# Altium integrated library 自定义库.IntLib: 520 symbols (part 5 of 6)
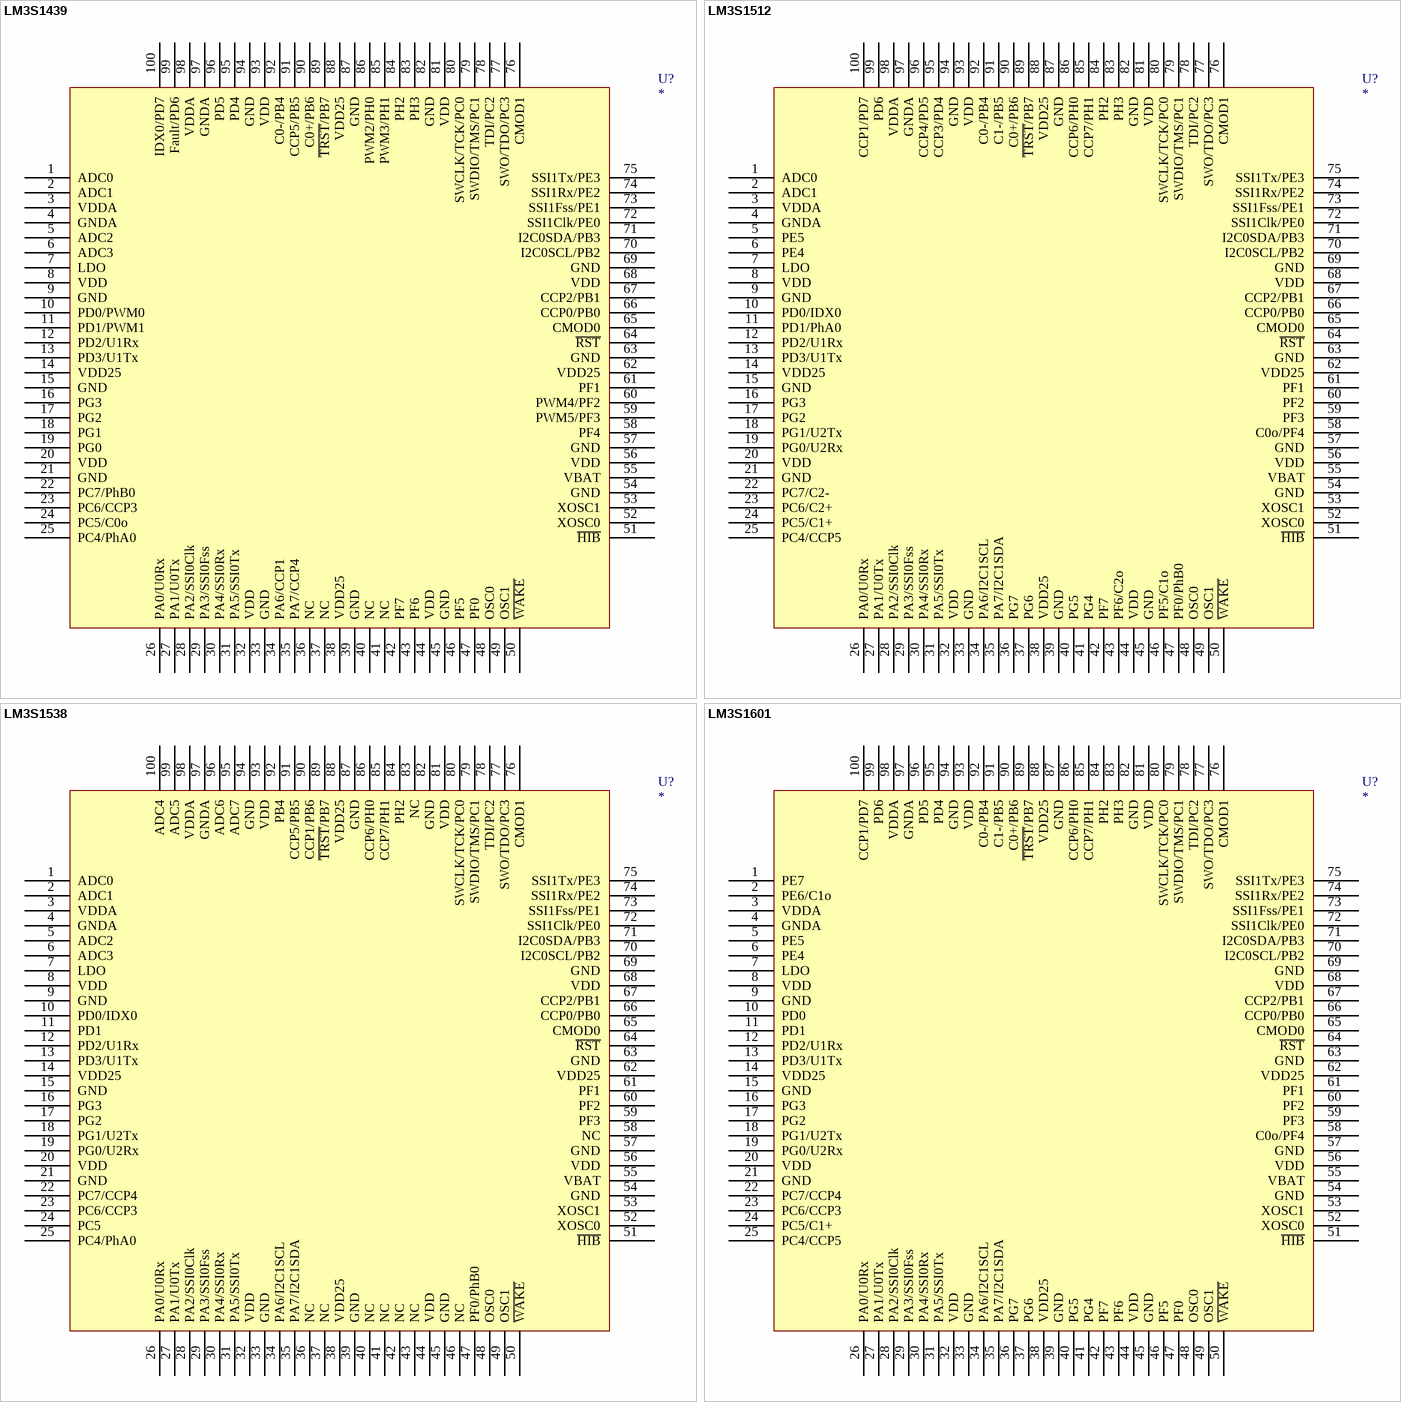
[diagram p44: symbols LM3S1439 to LM3S1601]

## LM3S1512
designator U?
footprint LQFP-100
pins: 1 ADC0, 2 ADC1, 3 VDDA, 4 GNDA, 5 PE5, 6 PE4, 7 LDO, 8 VDD, 9 GND, 10 PD0/IDX0, 11 PD1/PhA0, 12 PD2/U1Rx, 13 PD3/U1Tx, 14 VDD25, 15 GND, 16 PG3, 17 PG2, 18 PG1/U2Tx, 19 PG0/U2Rx, 20 VDD, 21 GND, 22 PC7/C2-, 23 PC6/C2+, 24 PC5/C1+, 25 PC4/CCP5, 26 PA0/U0Rx, 27 PA1/U0Tx, 28 PA2/SSI0Clk, 29 PA3/SSI0Fss, 30 PA4/SSI0Rx, 31 PA5/SSI0Tx, 32 VDD, 33 GND, 34 PA6/I2C1SCL, 35 PA7/I2C1SDA, 36 PG7, 37 PG6, 38 VDD25, 39 GND, 40 PG5, 41 PG4, 42 PF7, 43 PF6/C2o, 44 VDD, 45 GND, 46 PF5/C1o, 47 PF0/PhB0, 48 OSC0, 49 OSC1, 50 ~{WAKE}, 51 ~{HIB}, 52 XOSC0, 53 XOSC1, 54 GND, 55 VBAT, 56 VDD, 57 GND, 58 C0o/PF4, 59 PF3, 60 PF2, 61 PF1, 62 VDD25, 63 GND, 64 ~{RST}, 65 CMOD0, 66 CCP0/PB0, 67 CCP2/PB1, 68 VDD, 69 GND, 70 I2C0SCL/PB2, 71 I2C0SDA/PB3, 72 SSI1Clk/PE0, 73 SSI1Fss/PE1, 74 SSI1Rx/PE2, 75 SSI1Tx/PE3, 76 CMOD1, 77 SWO/TDO/PC3, 78 TDI/PC2, 79 SWDIO/TMS/PC1, 80 SWCLK/TCK/PC0, 81 VDD, 82 GND, 83 PH3, 84 PH2, 85 CCP7/PH1, 86 CCP6/PH0, 87 GND, 88 VDD25, 89 ~{TRST}/PB7, 90 C0+/PB6, 91 C1-/PB5, 92 C0-/PB4, 93 VDD, 94 GND, 95 CCP3/PD4, 96 CCP4/PD5, 97 GNDA, 98 VDDA, 99 PD6, 100 CCP1/PD7

## LM3S1538
designator U?
footprint LQFP-100
pins: 1 ADC0, 2 ADC1, 3 VDDA, 4 GNDA, 5 ADC2, 6 ADC3, 7 LDO, 8 VDD, 9 GND, 10 PD0/IDX0, 11 PD1, 12 PD2/U1Rx, 13 PD3/U1Tx, 14 VDD25, 15 GND, 16 PG3, 17 PG2, 18 PG1/U2Tx, 19 PG0/U2Rx, 20 VDD, 21 GND, 22 PC7/CCP4, 23 PC6/CCP3, 24 PC5, 25 PC4/PhA0, 26 PA0/U0Rx, 27 PA1/U0Tx, 28 PA2/SSI0Clk, 29 PA3/SSI0Fss, 30 PA4/SSI0Rx, 31 PA5/SSI0Tx, 32 VDD, 33 GND, 34 PA6/I2C1SCL, 35 PA7/I2C1SDA, 36 NC, 37 NC, 38 VDD25, 39 GND, 40 NC, 41 NC, 42 NC, 43 NC, 44 VDD, 45 GND, 46 NC, 47 PF0/PhB0, 48 OSC0, 49 OSC1, 50 ~{WAKE}, 51 ~{HIB}, 52 XOSC0, 53 XOSC1, 54 GND, 55 VBAT, 56 VDD, 57 GND, 58 NC, 59 PF3, 60 PF2, 61 PF1, 62 VDD25, 63 GND, 64 ~{RST}, 65 CMOD0, 66 CCP0/PB0, 67 CCP2/PB1, 68 VDD, 69 GND, 70 I2C0SCL/PB2, 71 I2C0SDA/PB3, 72 SSI1Clk/PE0, 73 SSI1Fss/PE1, 74 SSI1Rx/PE2, 75 SSI1Tx/PE3, 76 CMOD1, 77 SWO/TDO/PC3, 78 TDI/PC2, 79 SWDIO/TMS/PC1, 80 SWCLK/TCK/PC0, 81 VDD, 82 GND, 83 NC, 84 PH2, 85 CCP7/PH1, 86 CCP6/PH0, 87 GND, 88 VDD25, 89 ~{TRST}/PB7, 90 CCP1/PB6, 91 CCP5/PB5, 92 PB4, 93 VDD, 94 GND, 95 ADC7, 96 ADC6, 97 GNDA, 98 VDDA, 99 ADC5, 100 ADC4

## LM3S1601
designator U?
footprint LQFP-100
pins: 1 PE7, 2 PE6/C1o, 3 VDDA, 4 GNDA, 5 PE5, 6 PE4, 7 LDO, 8 VDD, 9 GND, 10 PD0, 11 PD1, 12 PD2/U1Rx, 13 PD3/U1Tx, 14 VDD25, 15 GND, 16 PG3, 17 PG2, 18 PG1/U2Tx, 19 PG0/U2Rx, 20 VDD, 21 GND, 22 PC7/CCP4, 23 PC6/CCP3, 24 PC5/C1+, 25 PC4/CCP5, 26 PA0/U0Rx, 27 PA1/U0Tx, 28 PA2/SSI0Clk, 29 PA3/SSI0Fss, 30 PA4/SSI0Rx, 31 PA5/SSI0Tx, 32 VDD, 33 GND, 34 PA6/I2C1SCL, 35 PA7/I2C1SDA, 36 PG7, 37 PG6, 38 VDD25, 39 GND, 40 PG5, 41 PG4, 42 PF7, 43 PF6, 44 VDD, 45 GND, 46 PF5, 47 PF0, 48 OSC0, 49 OSC1, 50 ~{WAKE}, 51 ~{HIB}, 52 XOSC0, 53 XOSC1, 54 GND, 55 VBAT, 56 VDD, 57 GND, 58 C0o/PF4, 59 PF3, 60 PF2, 61 PF1, 62 VDD25, 63 GND, 64 ~{RST}, 65 CMOD0, 66 CCP0/PB0, 67 CCP2/PB1, 68 VDD, 69 GND, 70 I2C0SCL/PB2, 71 I2C0SDA/PB3, 72 SSI1Clk/PE0, 73 SSI1Fss/PE1, 74 SSI1Rx/PE2, 75 SSI1Tx/PE3, 76 CMOD1, 77 SWO/TDO/PC3, 78 TDI/PC2, 79 SWDIO/TMS/PC1, 80 SWCLK/TCK/PC0, 81 VDD, 82 GND, 83 PH3, 84 PH2, 85 CCP7/PH1, 86 CCP6/PH0, 87 GND, 88 VDD25, 89 ~{TRST}/PB7, 90 C0+/PB6, 91 C1-/PB5, 92 C0-/PB4, 93 VDD, 94 GND, 95 PD4, 96 PD5, 97 GNDA, 98 VDDA, 99 PD6, 100 CCP1/PD7

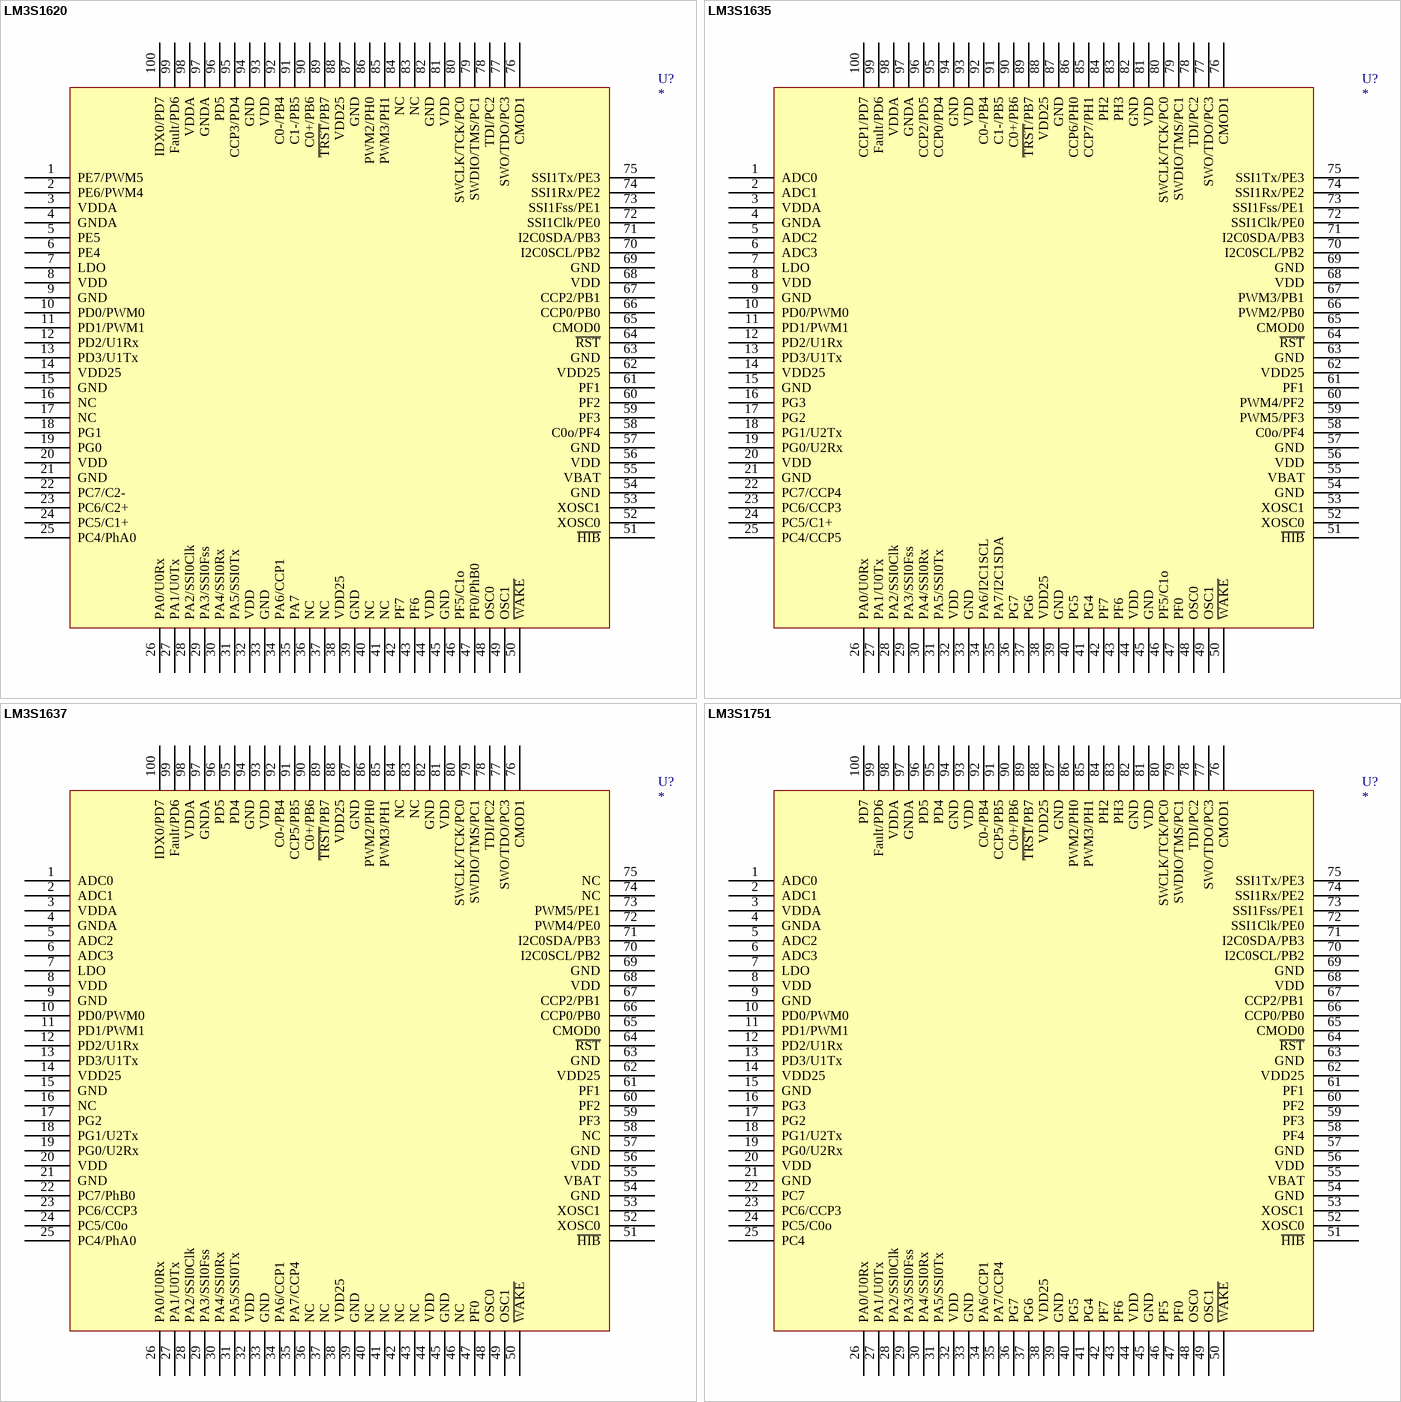
[diagram p25: symbols LM3S1620 to LM3S1751]

## LM3S1620
designator U?
footprint LQFP-100
pins: 1 PE7/PWM5, 2 PE6/PWM4, 3 VDDA, 4 GNDA, 5 PE5, 6 PE4, 7 LDO, 8 VDD, 9 GND, 10 PD0/PWM0, 11 PD1/PWM1, 12 PD2/U1Rx, 13 PD3/U1Tx, 14 VDD25, 15 GND, 16 NC, 17 NC, 18 PG1, 19 PG0, 20 VDD, 21 GND, 22 PC7/C2-, 23 PC6/C2+, 24 PC5/C1+, 25 PC4/PhA0, 26 PA0/U0Rx, 27 PA1/U0Tx, 28 PA2/SSI0Clk, 29 PA3/SSI0Fss, 30 PA4/SSI0Rx, 31 PA5/SSI0Tx, 32 VDD, 33 GND, 34 PA6/CCP1, 35 PA7, 36 NC, 37 NC, 38 VDD25, 39 GND, 40 NC, 41 NC, 42 PF7, 43 PF6, 44 VDD, 45 GND, 46 PF5/C1o, 47 PF0/PhB0, 48 OSC0, 49 OSC1, 50 ~{WAKE}, 51 ~{HIB}, 52 XOSC0, 53 XOSC1, 54 GND, 55 VBAT, 56 VDD, 57 GND, 58 C0o/PF4, 59 PF3, 60 PF2, 61 PF1, 62 VDD25, 63 GND, 64 ~{RST}, 65 CMOD0, 66 CCP0/PB0, 67 CCP2/PB1, 68 VDD, 69 GND, 70 I2C0SCL/PB2, 71 I2C0SDA/PB3, 72 SSI1Clk/PE0, 73 SSI1Fss/PE1, 74 SSI1Rx/PE2, 75 SSI1Tx/PE3, 76 CMOD1, 77 SWO/TDO/PC3, 78 TDI/PC2, 79 SWDIO/TMS/PC1, 80 SWCLK/TCK/PC0, 81 VDD, 82 GND, 83 NC, 84 NC, 85 PWM3/PH1, 86 PWM2/PH0, 87 GND, 88 VDD25, 89 ~{TRST}/PB7, 90 C0+/PB6, 91 C1-/PB5, 92 C0-/PB4, 93 VDD, 94 GND, 95 CCP3/PD4, 96 PD5, 97 GNDA, 98 VDDA, 99 Fault/PD6, 100 IDX0/PD7

## LM3S1635
designator U?
footprint LQFP-100
pins: 1 ADC0, 2 ADC1, 3 VDDA, 4 GNDA, 5 ADC2, 6 ADC3, 7 LDO, 8 VDD, 9 GND, 10 PD0/PWM0, 11 PD1/PWM1, 12 PD2/U1Rx, 13 PD3/U1Tx, 14 VDD25, 15 GND, 16 PG3, 17 PG2, 18 PG1/U2Tx, 19 PG0/U2Rx, 20 VDD, 21 GND, 22 PC7/CCP4, 23 PC6/CCP3, 24 PC5/C1+, 25 PC4/CCP5, 26 PA0/U0Rx, 27 PA1/U0Tx, 28 PA2/SSI0Clk, 29 PA3/SSI0Fss, 30 PA4/SSI0Rx, 31 PA5/SSI0Tx, 32 VDD, 33 GND, 34 PA6/I2C1SCL, 35 PA7/I2C1SDA, 36 PG7, 37 PG6, 38 VDD25, 39 GND, 40 PG5, 41 PG4, 42 PF7, 43 PF6, 44 VDD, 45 GND, 46 PF5/C1o, 47 PF0, 48 OSC0, 49 OSC1, 50 ~{WAKE}, 51 ~{HIB}, 52 XOSC0, 53 XOSC1, 54 GND, 55 VBAT, 56 VDD, 57 GND, 58 C0o/PF4, 59 PWM5/PF3, 60 PWM4/PF2, 61 PF1, 62 VDD25, 63 GND, 64 ~{RST}, 65 CMOD0, 66 PWM2/PB0, 67 PWM3/PB1, 68 VDD, 69 GND, 70 I2C0SCL/PB2, 71 I2C0SDA/PB3, 72 SSI1Clk/PE0, 73 SSI1Fss/PE1, 74 SSI1Rx/PE2, 75 SSI1Tx/PE3, 76 CMOD1, 77 SWO/TDO/PC3, 78 TDI/PC2, 79 SWDIO/TMS/PC1, 80 SWCLK/TCK/PC0, 81 VDD, 82 GND, 83 PH3, 84 PH2, 85 CCP7/PH1, 86 CCP6/PH0, 87 GND, 88 VDD25, 89 ~{TRST}/PB7, 90 C0+/PB6, 91 C1-/PB5, 92 C0-/PB4, 93 VDD, 94 GND, 95 CCP0/PD4, 96 CCP2/PD5, 97 GNDA, 98 VDDA, 99 Fault/PD6, 100 CCP1/PD7

## LM3S1637
designator U?
footprint LQFP-100
pins: 1 ADC0, 2 ADC1, 3 VDDA, 4 GNDA, 5 ADC2, 6 ADC3, 7 LDO, 8 VDD, 9 GND, 10 PD0/PWM0, 11 PD1/PWM1, 12 PD2/U1Rx, 13 PD3/U1Tx, 14 VDD25, 15 GND, 16 NC, 17 PG2, 18 PG1/U2Tx, 19 PG0/U2Rx, 20 VDD, 21 GND, 22 PC7/PhB0, 23 PC6/CCP3, 24 PC5/C0o, 25 PC4/PhA0, 26 PA0/U0Rx, 27 PA1/U0Tx, 28 PA2/SSI0Clk, 29 PA3/SSI0Fss, 30 PA4/SSI0Rx, 31 PA5/SSI0Tx, 32 VDD, 33 GND, 34 PA6/CCP1, 35 PA7/CCP4, 36 NC, 37 NC, 38 VDD25, 39 GND, 40 NC, 41 NC, 42 NC, 43 NC, 44 VDD, 45 GND, 46 NC, 47 PF0, 48 OSC0, 49 OSC1, 50 ~{WAKE}, 51 ~{HIB}, 52 XOSC0, 53 XOSC1, 54 GND, 55 VBAT, 56 VDD, 57 GND, 58 NC, 59 PF3, 60 PF2, 61 PF1, 62 VDD25, 63 GND, 64 ~{RST}, 65 CMOD0, 66 CCP0/PB0, 67 CCP2/PB1, 68 VDD, 69 GND, 70 I2C0SCL/PB2, 71 I2C0SDA/PB3, 72 PWM4/PE0, 73 PWM5/PE1, 74 NC, 75 NC, 76 CMOD1, 77 SWO/TDO/PC3, 78 TDI/PC2, 79 SWDIO/TMS/PC1, 80 SWCLK/TCK/PC0, 81 VDD, 82 GND, 83 NC, 84 NC, 85 PWM3/PH1, 86 PWM2/PH0, 87 GND, 88 VDD25, 89 ~{TRST}/PB7, 90 C0+/PB6, 91 CCP5/PB5, 92 C0-/PB4, 93 VDD, 94 GND, 95 PD4, 96 PD5, 97 GNDA, 98 VDDA, 99 Fault/PD6, 100 IDX0/PD7

## LM3S1751
designator U?
footprint LQFP-100
pins: 1 ADC0, 2 ADC1, 3 VDDA, 4 GNDA, 5 ADC2, 6 ADC3, 7 LDO, 8 VDD, 9 GND, 10 PD0/PWM0, 11 PD1/PWM1, 12 PD2/U1Rx, 13 PD3/U1Tx, 14 VDD25, 15 GND, 16 PG3, 17 PG2, 18 PG1/U2Tx, 19 PG0/U2Rx, 20 VDD, 21 GND, 22 PC7, 23 PC6/CCP3, 24 PC5/C0o, 25 PC4, 26 PA0/U0Rx, 27 PA1/U0Tx, 28 PA2/SSI0Clk, 29 PA3/SSI0Fss, 30 PA4/SSI0Rx, 31 PA5/SSI0Tx, 32 VDD, 33 GND, 34 PA6/CCP1, 35 PA7/CCP4, 36 PG7, 37 PG6, 38 VDD25, 39 GND, 40 PG5, 41 PG4, 42 PF7, 43 PF6, 44 VDD, 45 GND, 46 PF5, 47 PF0, 48 OSC0, 49 OSC1, 50 ~{WAKE}, 51 ~{HIB}, 52 XOSC0, 53 XOSC1, 54 GND, 55 VBAT, 56 VDD, 57 GND, 58 PF4, 59 PF3, 60 PF2, 61 PF1, 62 VDD25, 63 GND, 64 ~{RST}, 65 CMOD0, 66 CCP0/PB0, 67 CCP2/PB1, 68 VDD, 69 GND, 70 I2C0SCL/PB2, 71 I2C0SDA/PB3, 72 SSI1Clk/PE0, 73 SSI1Fss/PE1, 74 SSI1Rx/PE2, 75 SSI1Tx/PE3, 76 CMOD1, 77 SWO/TDO/PC3, 78 TDI/PC2, 79 SWDIO/TMS/PC1, 80 SWCLK/TCK/PC0, 81 VDD, 82 GND, 83 PH3, 84 PH2, 85 PWM3/PH1, 86 PWM2/PH0, 87 GND, 88 VDD25, 89 ~{TRST}/PB7, 90 C0+/PB6, 91 CCP5/PB5, 92 C0-/PB4, 93 VDD, 94 GND, 95 PD4, 96 PD5, 97 GNDA, 98 VDDA, 99 Fault/PD6, 100 PD7

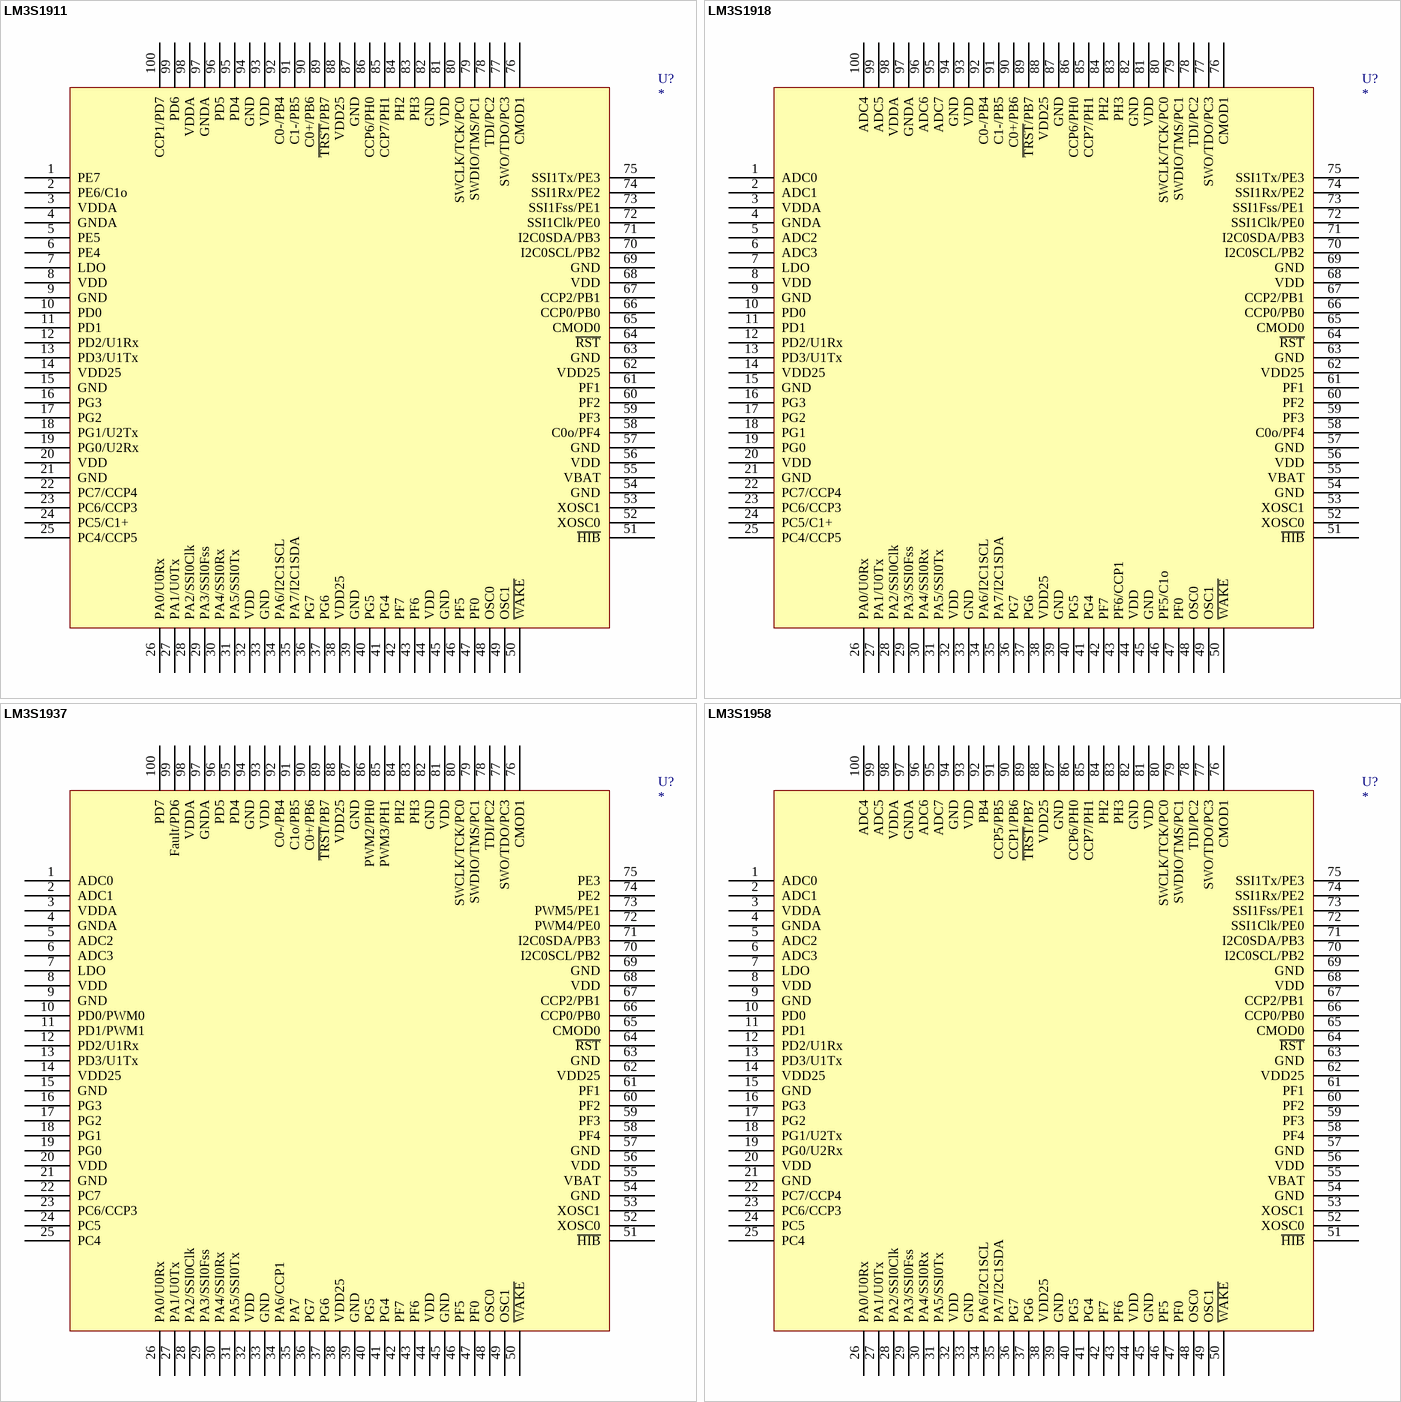
[diagram p26: symbols LM3S1911 to LM3S1958]

## LM3S1911
designator U?
footprint LQFP-100
pins: 1 PE7, 2 PE6/C1o, 3 VDDA, 4 GNDA, 5 PE5, 6 PE4, 7 LDO, 8 VDD, 9 GND, 10 PD0, 11 PD1, 12 PD2/U1Rx, 13 PD3/U1Tx, 14 VDD25, 15 GND, 16 PG3, 17 PG2, 18 PG1/U2Tx, 19 PG0/U2Rx, 20 VDD, 21 GND, 22 PC7/CCP4, 23 PC6/CCP3, 24 PC5/C1+, 25 PC4/CCP5, 26 PA0/U0Rx, 27 PA1/U0Tx, 28 PA2/SSI0Clk, 29 PA3/SSI0Fss, 30 PA4/SSI0Rx, 31 PA5/SSI0Tx, 32 VDD, 33 GND, 34 PA6/I2C1SCL, 35 PA7/I2C1SDA, 36 PG7, 37 PG6, 38 VDD25, 39 GND, 40 PG5, 41 PG4, 42 PF7, 43 PF6, 44 VDD, 45 GND, 46 PF5, 47 PF0, 48 OSC0, 49 OSC1, 50 ~{WAKE}, 51 ~{HIB}, 52 XOSC0, 53 XOSC1, 54 GND, 55 VBAT, 56 VDD, 57 GND, 58 C0o/PF4, 59 PF3, 60 PF2, 61 PF1, 62 VDD25, 63 GND, 64 ~{RST}, 65 CMOD0, 66 CCP0/PB0, 67 CCP2/PB1, 68 VDD, 69 GND, 70 I2C0SCL/PB2, 71 I2C0SDA/PB3, 72 SSI1Clk/PE0, 73 SSI1Fss/PE1, 74 SSI1Rx/PE2, 75 SSI1Tx/PE3, 76 CMOD1, 77 SWO/TDO/PC3, 78 TDI/PC2, 79 SWDIO/TMS/PC1, 80 SWCLK/TCK/PC0, 81 VDD, 82 GND, 83 PH3, 84 PH2, 85 CCP7/PH1, 86 CCP6/PH0, 87 GND, 88 VDD25, 89 ~{TRST}/PB7, 90 C0+/PB6, 91 C1-/PB5, 92 C0-/PB4, 93 VDD, 94 GND, 95 PD4, 96 PD5, 97 GNDA, 98 VDDA, 99 PD6, 100 CCP1/PD7

## LM3S1918
designator U?
footprint LQFP-100
pins: 1 ADC0, 2 ADC1, 3 VDDA, 4 GNDA, 5 ADC2, 6 ADC3, 7 LDO, 8 VDD, 9 GND, 10 PD0, 11 PD1, 12 PD2/U1Rx, 13 PD3/U1Tx, 14 VDD25, 15 GND, 16 PG3, 17 PG2, 18 PG1, 19 PG0, 20 VDD, 21 GND, 22 PC7/CCP4, 23 PC6/CCP3, 24 PC5/C1+, 25 PC4/CCP5, 26 PA0/U0Rx, 27 PA1/U0Tx, 28 PA2/SSI0Clk, 29 PA3/SSI0Fss, 30 PA4/SSI0Rx, 31 PA5/SSI0Tx, 32 VDD, 33 GND, 34 PA6/I2C1SCL, 35 PA7/I2C1SDA, 36 PG7, 37 PG6, 38 VDD25, 39 GND, 40 PG5, 41 PG4, 42 PF7, 43 PF6/CCP1, 44 VDD, 45 GND, 46 PF5/C1o, 47 PF0, 48 OSC0, 49 OSC1, 50 ~{WAKE}, 51 ~{HIB}, 52 XOSC0, 53 XOSC1, 54 GND, 55 VBAT, 56 VDD, 57 GND, 58 C0o/PF4, 59 PF3, 60 PF2, 61 PF1, 62 VDD25, 63 GND, 64 ~{RST}, 65 CMOD0, 66 CCP0/PB0, 67 CCP2/PB1, 68 VDD, 69 GND, 70 I2C0SCL/PB2, 71 I2C0SDA/PB3, 72 SSI1Clk/PE0, 73 SSI1Fss/PE1, 74 SSI1Rx/PE2, 75 SSI1Tx/PE3, 76 CMOD1, 77 SWO/TDO/PC3, 78 TDI/PC2, 79 SWDIO/TMS/PC1, 80 SWCLK/TCK/PC0, 81 VDD, 82 GND, 83 PH3, 84 PH2, 85 CCP7/PH1, 86 CCP6/PH0, 87 GND, 88 VDD25, 89 ~{TRST}/PB7, 90 C0+/PB6, 91 C1-/PB5, 92 C0-/PB4, 93 VDD, 94 GND, 95 ADC7, 96 ADC6, 97 GNDA, 98 VDDA, 99 ADC5, 100 ADC4

## LM3S1937
designator U?
footprint LQFP-100
pins: 1 ADC0, 2 ADC1, 3 VDDA, 4 GNDA, 5 ADC2, 6 ADC3, 7 LDO, 8 VDD, 9 GND, 10 PD0/PWM0, 11 PD1/PWM1, 12 PD2/U1Rx, 13 PD3/U1Tx, 14 VDD25, 15 GND, 16 PG3, 17 PG2, 18 PG1, 19 PG0, 20 VDD, 21 GND, 22 PC7, 23 PC6/CCP3, 24 PC5, 25 PC4, 26 PA0/U0Rx, 27 PA1/U0Tx, 28 PA2/SSI0Clk, 29 PA3/SSI0Fss, 30 PA4/SSI0Rx, 31 PA5/SSI0Tx, 32 VDD, 33 GND, 34 PA6/CCP1, 35 PA7, 36 PG7, 37 PG6, 38 VDD25, 39 GND, 40 PG5, 41 PG4, 42 PF7, 43 PF6, 44 VDD, 45 GND, 46 PF5, 47 PF0, 48 OSC0, 49 OSC1, 50 ~{WAKE}, 51 ~{HIB}, 52 XOSC0, 53 XOSC1, 54 GND, 55 VBAT, 56 VDD, 57 GND, 58 PF4, 59 PF3, 60 PF2, 61 PF1, 62 VDD25, 63 GND, 64 ~{RST}, 65 CMOD0, 66 CCP0/PB0, 67 CCP2/PB1, 68 VDD, 69 GND, 70 I2C0SCL/PB2, 71 I2C0SDA/PB3, 72 PWM4/PE0, 73 PWM5/PE1, 74 PE2, 75 PE3, 76 CMOD1, 77 SWO/TDO/PC3, 78 TDI/PC2, 79 SWDIO/TMS/PC1, 80 SWCLK/TCK/PC0, 81 VDD, 82 GND, 83 PH3, 84 PH2, 85 PWM3/PH1, 86 PWM2/PH0, 87 GND, 88 VDD25, 89 ~{TRST}/PB7, 90 C0+/PB6, 91 C1o/PB5, 92 C0-/PB4, 93 VDD, 94 GND, 95 PD4, 96 PD5, 97 GNDA, 98 VDDA, 99 Fault/PD6, 100 PD7

## LM3S1958
designator U?
footprint LQFP-100
pins: 1 ADC0, 2 ADC1, 3 VDDA, 4 GNDA, 5 ADC2, 6 ADC3, 7 LDO, 8 VDD, 9 GND, 10 PD0, 11 PD1, 12 PD2/U1Rx, 13 PD3/U1Tx, 14 VDD25, 15 GND, 16 PG3, 17 PG2, 18 PG1/U2Tx, 19 PG0/U2Rx, 20 VDD, 21 GND, 22 PC7/CCP4, 23 PC6/CCP3, 24 PC5, 25 PC4, 26 PA0/U0Rx, 27 PA1/U0Tx, 28 PA2/SSI0Clk, 29 PA3/SSI0Fss, 30 PA4/SSI0Rx, 31 PA5/SSI0Tx, 32 VDD, 33 GND, 34 PA6/I2C1SCL, 35 PA7/I2C1SDA, 36 PG7, 37 PG6, 38 VDD25, 39 GND, 40 PG5, 41 PG4, 42 PF7, 43 PF6, 44 VDD, 45 GND, 46 PF5, 47 PF0, 48 OSC0, 49 OSC1, 50 ~{WAKE}, 51 ~{HIB}, 52 XOSC0, 53 XOSC1, 54 GND, 55 VBAT, 56 VDD, 57 GND, 58 PF4, 59 PF3, 60 PF2, 61 PF1, 62 VDD25, 63 GND, 64 ~{RST}, 65 CMOD0, 66 CCP0/PB0, 67 CCP2/PB1, 68 VDD, 69 GND, 70 I2C0SCL/PB2, 71 I2C0SDA/PB3, 72 SSI1Clk/PE0, 73 SSI1Fss/PE1, 74 SSI1Rx/PE2, 75 SSI1Tx/PE3, 76 CMOD1, 77 SWO/TDO/PC3, 78 TDI/PC2, 79 SWDIO/TMS/PC1, 80 SWCLK/TCK/PC0, 81 VDD, 82 GND, 83 PH3, 84 PH2, 85 CCP7/PH1, 86 CCP6/PH0, 87 GND, 88 VDD25, 89 ~{TRST}/PB7, 90 CCP1/PB6, 91 CCP5/PB5, 92 PB4, 93 VDD, 94 GND, 95 ADC7, 96 ADC6, 97 GNDA, 98 VDDA, 99 ADC5, 100 ADC4

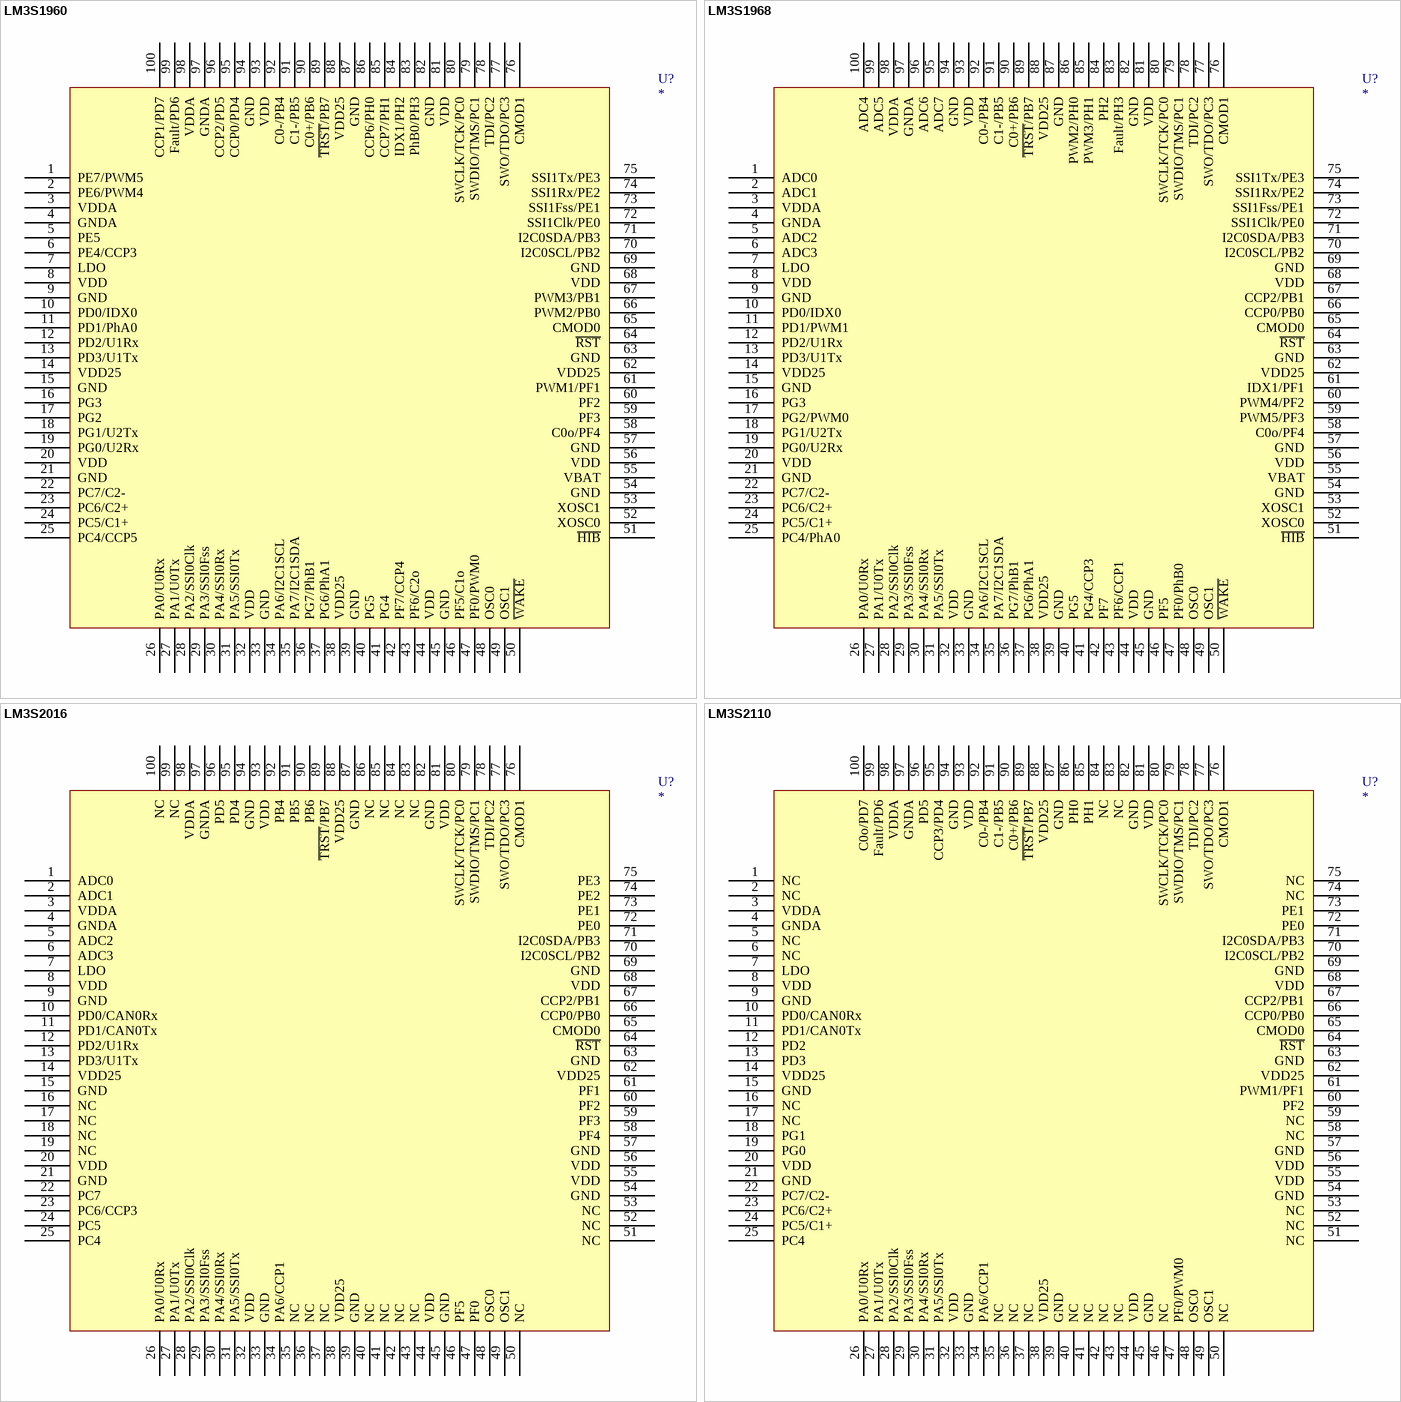
[diagram p27: symbols LM3S1960 to LM3S2110]

## LM3S1960
designator U?
footprint LQFP-100
pins: 1 PE7/PWM5, 2 PE6/PWM4, 3 VDDA, 4 GNDA, 5 PE5, 6 PE4/CCP3, 7 LDO, 8 VDD, 9 GND, 10 PD0/IDX0, 11 PD1/PhA0, 12 PD2/U1Rx, 13 PD3/U1Tx, 14 VDD25, 15 GND, 16 PG3, 17 PG2, 18 PG1/U2Tx, 19 PG0/U2Rx, 20 VDD, 21 GND, 22 PC7/C2-, 23 PC6/C2+, 24 PC5/C1+, 25 PC4/CCP5, 26 PA0/U0Rx, 27 PA1/U0Tx, 28 PA2/SSI0Clk, 29 PA3/SSI0Fss, 30 PA4/SSI0Rx, 31 PA5/SSI0Tx, 32 VDD, 33 GND, 34 PA6/I2C1SCL, 35 PA7/I2C1SDA, 36 PG7/PhB1, 37 PG6/PhA1, 38 VDD25, 39 GND, 40 PG5, 41 PG4, 42 PF7/CCP4, 43 PF6/C2o, 44 VDD, 45 GND, 46 PF5/C1o, 47 PF0/PWM0, 48 OSC0, 49 OSC1, 50 ~{WAKE}, 51 ~{HIB}, 52 XOSC0, 53 XOSC1, 54 GND, 55 VBAT, 56 VDD, 57 GND, 58 C0o/PF4, 59 PF3, 60 PF2, 61 PWM1/PF1, 62 VDD25, 63 GND, 64 ~{RST}, 65 CMOD0, 66 PWM2/PB0, 67 PWM3/PB1, 68 VDD, 69 GND, 70 I2C0SCL/PB2, 71 I2C0SDA/PB3, 72 SSI1Clk/PE0, 73 SSI1Fss/PE1, 74 SSI1Rx/PE2, 75 SSI1Tx/PE3, 76 CMOD1, 77 SWO/TDO/PC3, 78 TDI/PC2, 79 SWDIO/TMS/PC1, 80 SWCLK/TCK/PC0, 81 VDD, 82 GND, 83 PhB0/PH3, 84 IDX1/PH2, 85 CCP7/PH1, 86 CCP6/PH0, 87 GND, 88 VDD25, 89 ~{TRST}/PB7, 90 C0+/PB6, 91 C1-/PB5, 92 C0-/PB4, 93 VDD, 94 GND, 95 CCP0/PD4, 96 CCP2/PD5, 97 GNDA, 98 VDDA, 99 Fault/PD6, 100 CCP1/PD7

## LM3S1968
designator U?
footprint LQFP-100
pins: 1 ADC0, 2 ADC1, 3 VDDA, 4 GNDA, 5 ADC2, 6 ADC3, 7 LDO, 8 VDD, 9 GND, 10 PD0/IDX0, 11 PD1/PWM1, 12 PD2/U1Rx, 13 PD3/U1Tx, 14 VDD25, 15 GND, 16 PG3, 17 PG2/PWM0, 18 PG1/U2Tx, 19 PG0/U2Rx, 20 VDD, 21 GND, 22 PC7/C2-, 23 PC6/C2+, 24 PC5/C1+, 25 PC4/PhA0, 26 PA0/U0Rx, 27 PA1/U0Tx, 28 PA2/SSI0Clk, 29 PA3/SSI0Fss, 30 PA4/SSI0Rx, 31 PA5/SSI0Tx, 32 VDD, 33 GND, 34 PA6/I2C1SCL, 35 PA7/I2C1SDA, 36 PG7/PhB1, 37 PG6/PhA1, 38 VDD25, 39 GND, 40 PG5, 41 PG4/CCP3, 42 PF7, 43 PF6/CCP1, 44 VDD, 45 GND, 46 PF5, 47 PF0/PhB0, 48 OSC0, 49 OSC1, 50 ~{WAKE}, 51 ~{HIB}, 52 XOSC0, 53 XOSC1, 54 GND, 55 VBAT, 56 VDD, 57 GND, 58 C0o/PF4, 59 PWM5/PF3, 60 PWM4/PF2, 61 IDX1/PF1, 62 VDD25, 63 GND, 64 ~{RST}, 65 CMOD0, 66 CCP0/PB0, 67 CCP2/PB1, 68 VDD, 69 GND, 70 I2C0SCL/PB2, 71 I2C0SDA/PB3, 72 SSI1Clk/PE0, 73 SSI1Fss/PE1, 74 SSI1Rx/PE2, 75 SSI1Tx/PE3, 76 CMOD1, 77 SWO/TDO/PC3, 78 TDI/PC2, 79 SWDIO/TMS/PC1, 80 SWCLK/TCK/PC0, 81 VDD, 82 GND, 83 Fault/PH3, 84 PH2, 85 PWM3/PH1, 86 PWM2/PH0, 87 GND, 88 VDD25, 89 ~{TRST}/PB7, 90 C0+/PB6, 91 C1-/PB5, 92 C0-/PB4, 93 VDD, 94 GND, 95 ADC7, 96 ADC6, 97 GNDA, 98 VDDA, 99 ADC5, 100 ADC4

## LM3S2016
designator U?
footprint LQFP-100
pins: 1 ADC0, 2 ADC1, 3 VDDA, 4 GNDA, 5 ADC2, 6 ADC3, 7 LDO, 8 VDD, 9 GND, 10 PD0/CAN0Rx, 11 PD1/CAN0Tx, 12 PD2/U1Rx, 13 PD3/U1Tx, 14 VDD25, 15 GND, 16 NC, 17 NC, 18 NC, 19 NC, 20 VDD, 21 GND, 22 PC7, 23 PC6/CCP3, 24 PC5, 25 PC4, 26 PA0/U0Rx, 27 PA1/U0Tx, 28 PA2/SSI0Clk, 29 PA3/SSI0Fss, 30 PA4/SSI0Rx, 31 PA5/SSI0Tx, 32 VDD, 33 GND, 34 PA6/CCP1, 35 NC, 36 NC, 37 NC, 38 VDD25, 39 GND, 40 NC, 41 NC, 42 NC, 43 NC, 44 VDD, 45 GND, 46 PF5, 47 PF0, 48 OSC0, 49 OSC1, 50 NC, 51 NC, 52 NC, 53 NC, 54 GND, 55 VDD, 56 VDD, 57 GND, 58 PF4, 59 PF3, 60 PF2, 61 PF1, 62 VDD25, 63 GND, 64 ~{RST}, 65 CMOD0, 66 CCP0/PB0, 67 CCP2/PB1, 68 VDD, 69 GND, 70 I2C0SCL/PB2, 71 I2C0SDA/PB3, 72 PE0, 73 PE1, 74 PE2, 75 PE3, 76 CMOD1, 77 SWO/TDO/PC3, 78 TDI/PC2, 79 SWDIO/TMS/PC1, 80 SWCLK/TCK/PC0, 81 VDD, 82 GND, 83 NC, 84 NC, 85 NC, 86 NC, 87 GND, 88 VDD25, 89 ~{TRST}/PB7, 90 PB6, 91 PB5, 92 PB4, 93 VDD, 94 GND, 95 PD4, 96 PD5, 97 GNDA, 98 VDDA, 99 NC, 100 NC

## LM3S2110
designator U?
footprint LQFP-100
pins: 1 NC, 2 NC, 3 VDDA, 4 GNDA, 5 NC, 6 NC, 7 LDO, 8 VDD, 9 GND, 10 PD0/CAN0Rx, 11 PD1/CAN0Tx, 12 PD2, 13 PD3, 14 VDD25, 15 GND, 16 NC, 17 NC, 18 PG1, 19 PG0, 20 VDD, 21 GND, 22 PC7/C2-, 23 PC6/C2+, 24 PC5/C1+, 25 PC4, 26 PA0/U0Rx, 27 PA1/U0Tx, 28 PA2/SSI0Clk, 29 PA3/SSI0Fss, 30 PA4/SSI0Rx, 31 PA5/SSI0Tx, 32 VDD, 33 GND, 34 PA6/CCP1, 35 NC, 36 NC, 37 NC, 38 VDD25, 39 GND, 40 NC, 41 NC, 42 NC, 43 NC, 44 VDD, 45 GND, 46 NC, 47 PF0/PWM0, 48 OSC0, 49 OSC1, 50 NC, 51 NC, 52 NC, 53 NC, 54 GND, 55 VDD, 56 VDD, 57 GND, 58 NC, 59 NC, 60 PF2, 61 PWM1/PF1, 62 VDD25, 63 GND, 64 ~{RST}, 65 CMOD0, 66 CCP0/PB0, 67 CCP2/PB1, 68 VDD, 69 GND, 70 I2C0SCL/PB2, 71 I2C0SDA/PB3, 72 PE0, 73 PE1, 74 NC, 75 NC, 76 CMOD1, 77 SWO/TDO/PC3, 78 TDI/PC2, 79 SWDIO/TMS/PC1, 80 SWCLK/TCK/PC0, 81 VDD, 82 GND, 83 NC, 84 NC, 85 PH1, 86 PH0, 87 GND, 88 VDD25, 89 ~{TRST}/PB7, 90 C0+/PB6, 91 C1-/PB5, 92 C0-/PB4, 93 VDD, 94 GND, 95 CCP3/PD4, 96 PD5, 97 GNDA, 98 VDDA, 99 Fault/PD6, 100 C0o/PD7

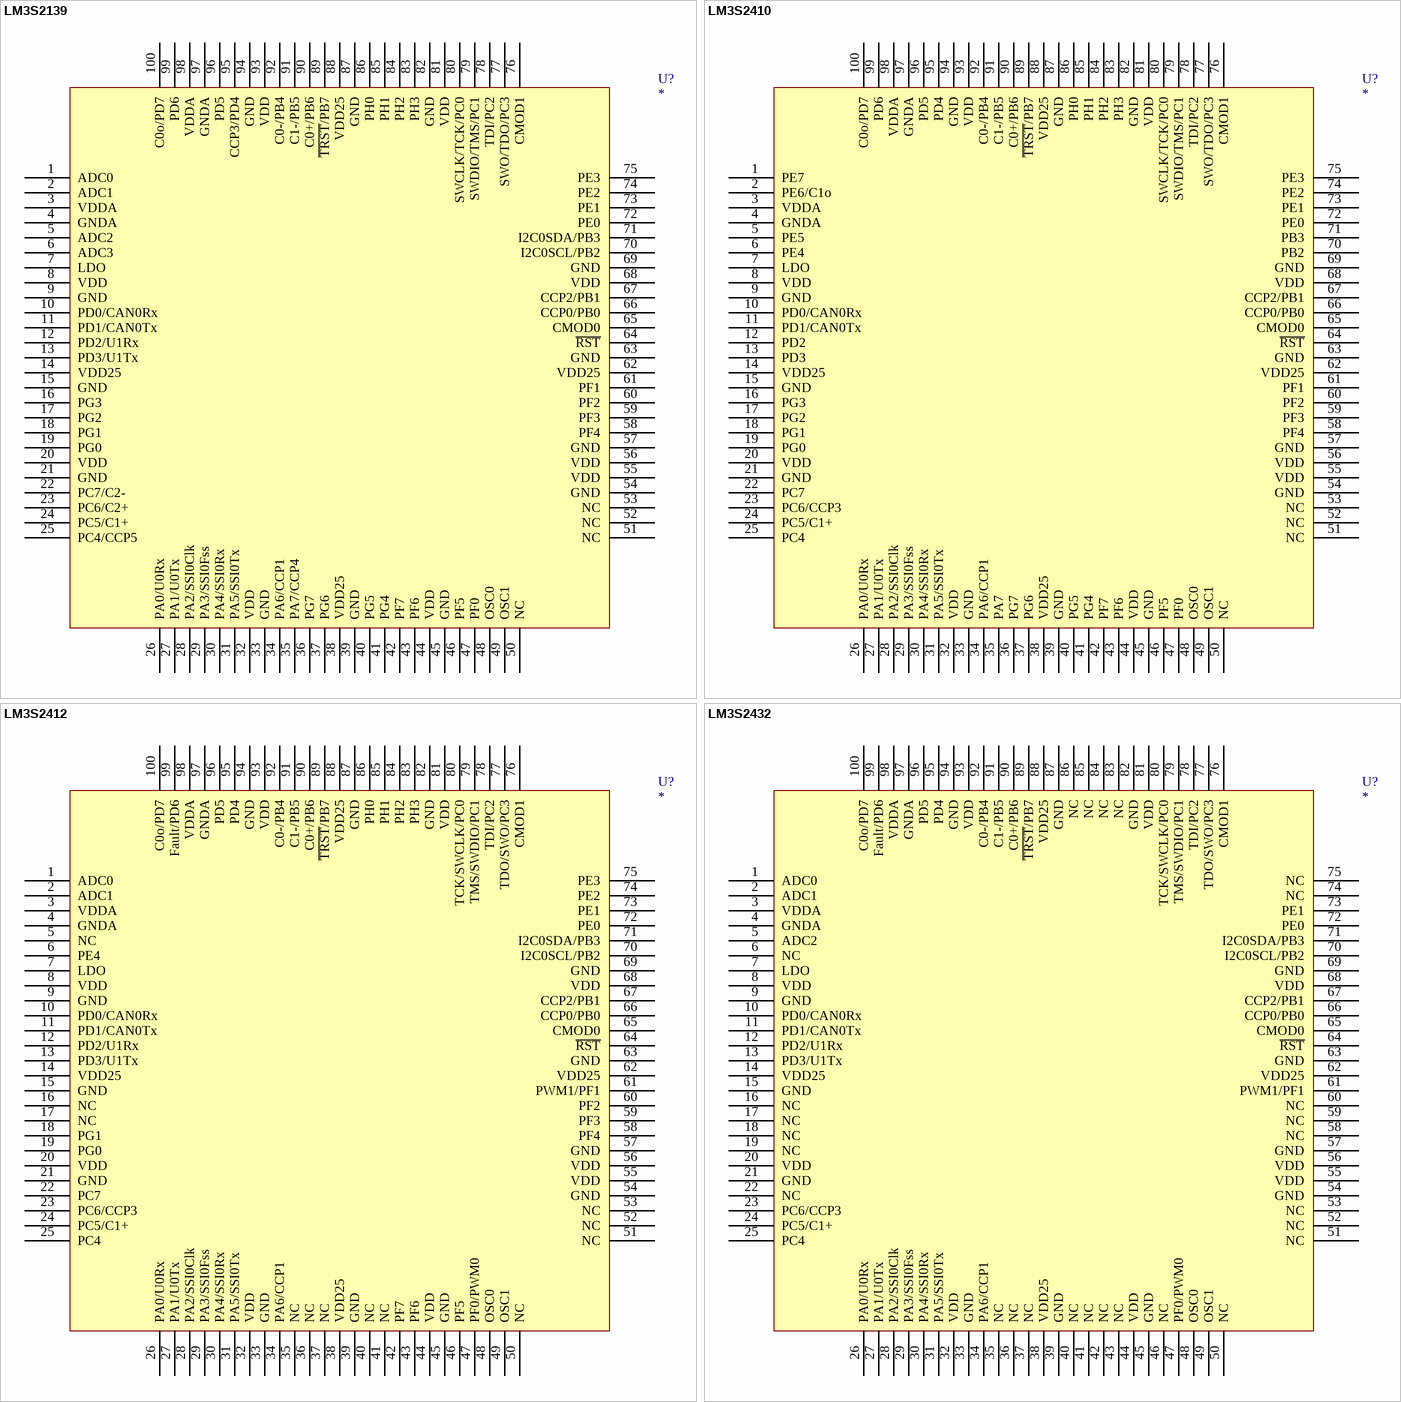
[diagram p28: symbols LM3S2139 to LM3S2432]

## LM3S2139
designator U?
footprint LQFP-100
pins: 1 ADC0, 2 ADC1, 3 VDDA, 4 GNDA, 5 ADC2, 6 ADC3, 7 LDO, 8 VDD, 9 GND, 10 PD0/CAN0Rx, 11 PD1/CAN0Tx, 12 PD2/U1Rx, 13 PD3/U1Tx, 14 VDD25, 15 GND, 16 PG3, 17 PG2, 18 PG1, 19 PG0, 20 VDD, 21 GND, 22 PC7/C2-, 23 PC6/C2+, 24 PC5/C1+, 25 PC4/CCP5, 26 PA0/U0Rx, 27 PA1/U0Tx, 28 PA2/SSI0Clk, 29 PA3/SSI0Fss, 30 PA4/SSI0Rx, 31 PA5/SSI0Tx, 32 VDD, 33 GND, 34 PA6/CCP1, 35 PA7/CCP4, 36 PG7, 37 PG6, 38 VDD25, 39 GND, 40 PG5, 41 PG4, 42 PF7, 43 PF6, 44 VDD, 45 GND, 46 PF5, 47 PF0, 48 OSC0, 49 OSC1, 50 NC, 51 NC, 52 NC, 53 NC, 54 GND, 55 VDD, 56 VDD, 57 GND, 58 PF4, 59 PF3, 60 PF2, 61 PF1, 62 VDD25, 63 GND, 64 ~{RST}, 65 CMOD0, 66 CCP0/PB0, 67 CCP2/PB1, 68 VDD, 69 GND, 70 I2C0SCL/PB2, 71 I2C0SDA/PB3, 72 PE0, 73 PE1, 74 PE2, 75 PE3, 76 CMOD1, 77 SWO/TDO/PC3, 78 TDI/PC2, 79 SWDIO/TMS/PC1, 80 SWCLK/TCK/PC0, 81 VDD, 82 GND, 83 PH3, 84 PH2, 85 PH1, 86 PH0, 87 GND, 88 VDD25, 89 ~{TRST}/PB7, 90 C0+/PB6, 91 C1-/PB5, 92 C0-/PB4, 93 VDD, 94 GND, 95 CCP3/PD4, 96 PD5, 97 GNDA, 98 VDDA, 99 PD6, 100 C0o/PD7

## LM3S2410
designator U?
footprint LQFP-100
pins: 1 PE7, 2 PE6/C1o, 3 VDDA, 4 GNDA, 5 PE5, 6 PE4, 7 LDO, 8 VDD, 9 GND, 10 PD0/CAN0Rx, 11 PD1/CAN0Tx, 12 PD2, 13 PD3, 14 VDD25, 15 GND, 16 PG3, 17 PG2, 18 PG1, 19 PG0, 20 VDD, 21 GND, 22 PC7, 23 PC6/CCP3, 24 PC5/C1+, 25 PC4, 26 PA0/U0Rx, 27 PA1/U0Tx, 28 PA2/SSI0Clk, 29 PA3/SSI0Fss, 30 PA4/SSI0Rx, 31 PA5/SSI0Tx, 32 VDD, 33 GND, 34 PA6/CCP1, 35 PA7, 36 PG7, 37 PG6, 38 VDD25, 39 GND, 40 PG5, 41 PG4, 42 PF7, 43 PF6, 44 VDD, 45 GND, 46 PF5, 47 PF0, 48 OSC0, 49 OSC1, 50 NC, 51 NC, 52 NC, 53 NC, 54 GND, 55 VDD, 56 VDD, 57 GND, 58 PF4, 59 PF3, 60 PF2, 61 PF1, 62 VDD25, 63 GND, 64 ~{RST}, 65 CMOD0, 66 CCP0/PB0, 67 CCP2/PB1, 68 VDD, 69 GND, 70 PB2, 71 PB3, 72 PE0, 73 PE1, 74 PE2, 75 PE3, 76 CMOD1, 77 SWO/TDO/PC3, 78 TDI/PC2, 79 SWDIO/TMS/PC1, 80 SWCLK/TCK/PC0, 81 VDD, 82 GND, 83 PH3, 84 PH2, 85 PH1, 86 PH0, 87 GND, 88 VDD25, 89 ~{TRST}/PB7, 90 C0+/PB6, 91 C1-/PB5, 92 C0-/PB4, 93 VDD, 94 GND, 95 PD4, 96 PD5, 97 GNDA, 98 VDDA, 99 PD6, 100 C0o/PD7

## LM3S2412
designator U?
footprint LQFP-100
pins: 1 ADC0, 2 ADC1, 3 VDDA, 4 GNDA, 5 NC, 6 PE4, 7 LDO, 8 VDD, 9 GND, 10 PD0/CAN0Rx, 11 PD1/CAN0Tx, 12 PD2/U1Rx, 13 PD3/U1Tx, 14 VDD25, 15 GND, 16 NC, 17 NC, 18 PG1, 19 PG0, 20 VDD, 21 GND, 22 PC7, 23 PC6/CCP3, 24 PC5/C1+, 25 PC4, 26 PA0/U0Rx, 27 PA1/U0Tx, 28 PA2/SSI0Clk, 29 PA3/SSI0Fss, 30 PA4/SSI0Rx, 31 PA5/SSI0Tx, 32 VDD, 33 GND, 34 PA6/CCP1, 35 NC, 36 NC, 37 NC, 38 VDD25, 39 GND, 40 NC, 41 NC, 42 PF7, 43 PF6, 44 VDD, 45 GND, 46 PF5, 47 PF0/PWM0, 48 OSC0, 49 OSC1, 50 NC, 51 NC, 52 NC, 53 NC, 54 GND, 55 VDD, 56 VDD, 57 GND, 58 PF4, 59 PF3, 60 PF2, 61 PWM1/PF1, 62 VDD25, 63 GND, 64 ~{RST}, 65 CMOD0, 66 CCP0/PB0, 67 CCP2/PB1, 68 VDD, 69 GND, 70 I2C0SCL/PB2, 71 I2C0SDA/PB3, 72 PE0, 73 PE1, 74 PE2, 75 PE3, 76 CMOD1, 77 TDO/SWO/PC3, 78 TDI/PC2, 79 TMS/SWDIO/PC1, 80 TCK/SWCLK/PC0, 81 VDD, 82 GND, 83 PH3, 84 PH2, 85 PH1, 86 PH0, 87 GND, 88 VDD25, 89 ~{TRST}/PB7, 90 C0+/PB6, 91 C1-/PB5, 92 C0-/PB4, 93 VDD, 94 GND, 95 PD4, 96 PD5, 97 GNDA, 98 VDDA, 99 Fault/PD6, 100 C0o/PD7

## LM3S2432
designator U?
footprint LQFP-100
pins: 1 ADC0, 2 ADC1, 3 VDDA, 4 GNDA, 5 ADC2, 6 NC, 7 LDO, 8 VDD, 9 GND, 10 PD0/CAN0Rx, 11 PD1/CAN0Tx, 12 PD2/U1Rx, 13 PD3/U1Tx, 14 VDD25, 15 GND, 16 NC, 17 NC, 18 NC, 19 NC, 20 VDD, 21 GND, 22 NC, 23 PC6/CCP3, 24 PC5/C1+, 25 PC4, 26 PA0/U0Rx, 27 PA1/U0Tx, 28 PA2/SSI0Clk, 29 PA3/SSI0Fss, 30 PA4/SSI0Rx, 31 PA5/SSI0Tx, 32 VDD, 33 GND, 34 PA6/CCP1, 35 NC, 36 NC, 37 NC, 38 VDD25, 39 GND, 40 NC, 41 NC, 42 NC, 43 NC, 44 VDD, 45 GND, 46 NC, 47 PF0/PWM0, 48 OSC0, 49 OSC1, 50 NC, 51 NC, 52 NC, 53 NC, 54 GND, 55 VDD, 56 VDD, 57 GND, 58 NC, 59 NC, 60 NC, 61 PWM1/PF1, 62 VDD25, 63 GND, 64 ~{RST}, 65 CMOD0, 66 CCP0/PB0, 67 CCP2/PB1, 68 VDD, 69 GND, 70 I2C0SCL/PB2, 71 I2C0SDA/PB3, 72 PE0, 73 PE1, 74 NC, 75 NC, 76 CMOD1, 77 TDO/SWO/PC3, 78 TDI/PC2, 79 TMS/SWDIO/PC1, 80 TCK/SWCLK/PC0, 81 VDD, 82 GND, 83 NC, 84 NC, 85 NC, 86 NC, 87 GND, 88 VDD25, 89 ~{TRST}/PB7, 90 C0+/PB6, 91 C1-/PB5, 92 C0-/PB4, 93 VDD, 94 GND, 95 PD4, 96 PD5, 97 GNDA, 98 VDDA, 99 Fault/PD6, 100 C0o/PD7

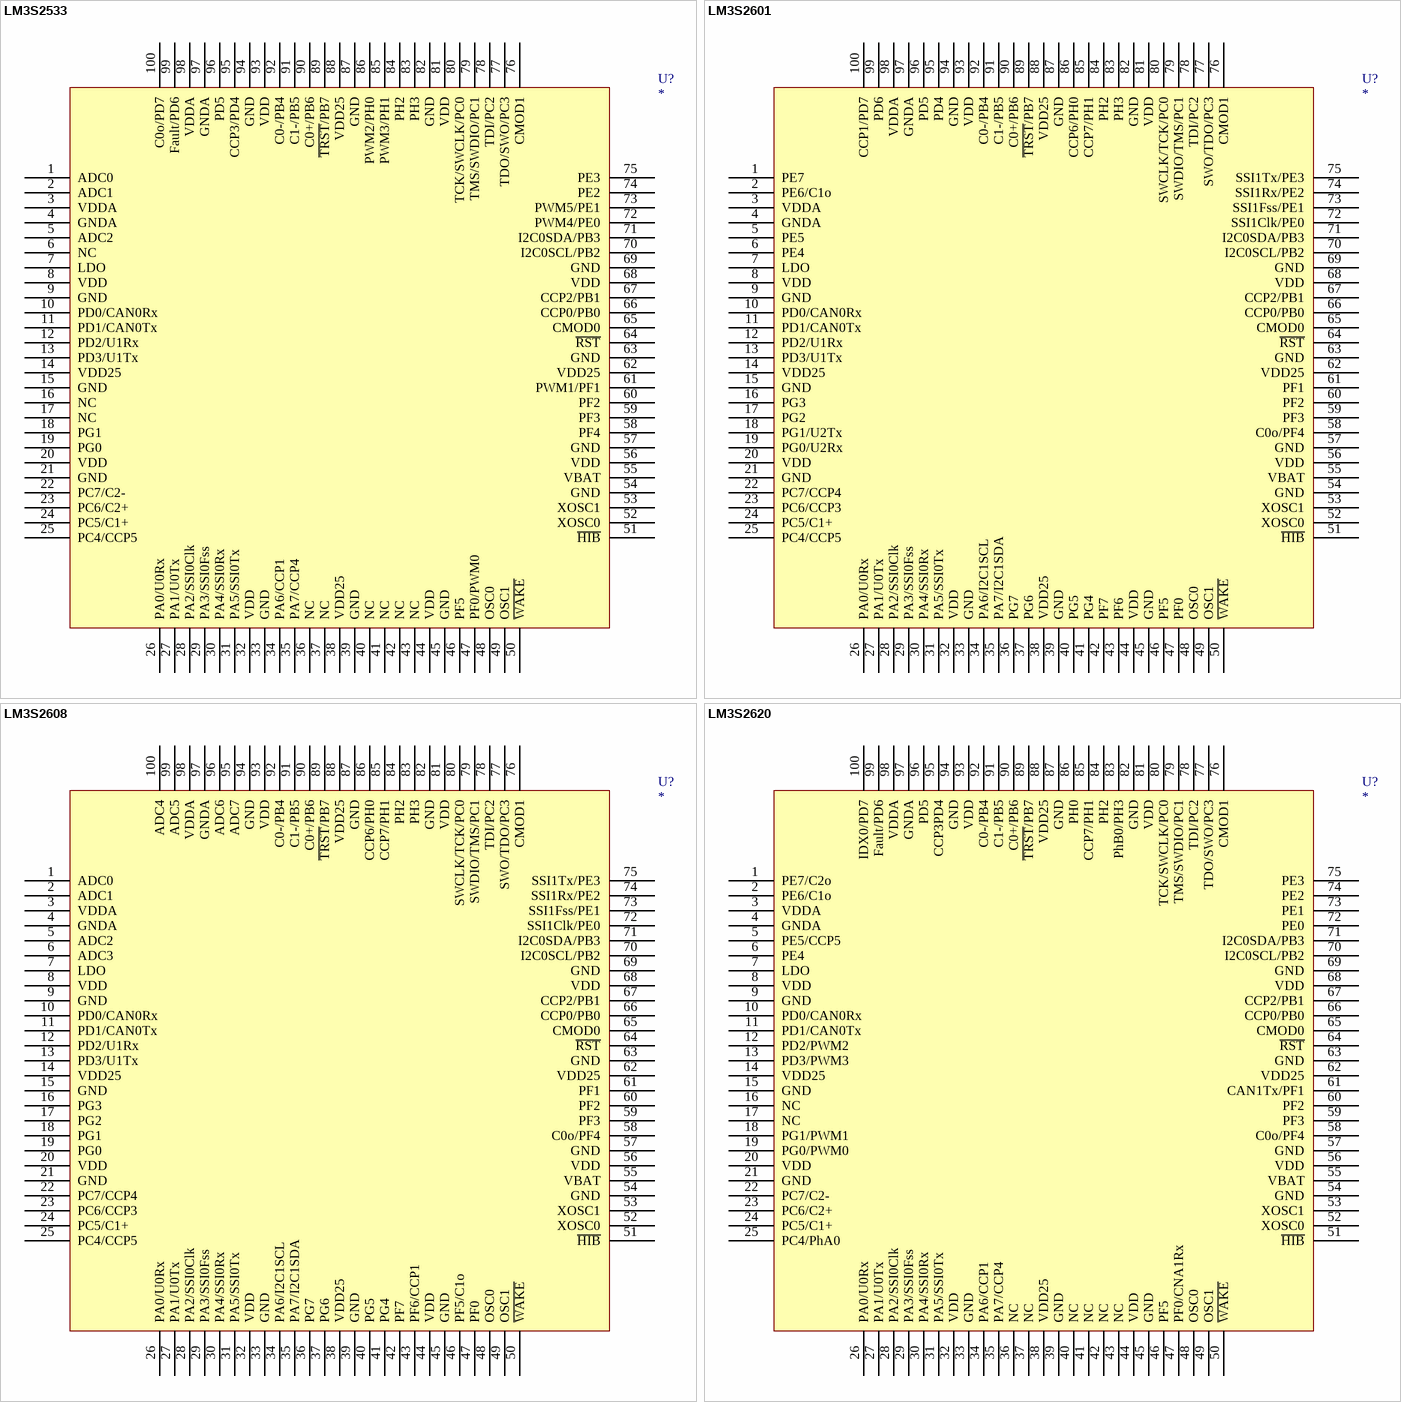
[diagram p29: symbols LM3S2533 to LM3S2620]

## LM3S2533
designator U?
footprint LQFP-100
pins: 1 ADC0, 2 ADC1, 3 VDDA, 4 GNDA, 5 ADC2, 6 NC, 7 LDO, 8 VDD, 9 GND, 10 PD0/CAN0Rx, 11 PD1/CAN0Tx, 12 PD2/U1Rx, 13 PD3/U1Tx, 14 VDD25, 15 GND, 16 NC, 17 NC, 18 PG1, 19 PG0, 20 VDD, 21 GND, 22 PC7/C2-, 23 PC6/C2+, 24 PC5/C1+, 25 PC4/CCP5, 26 PA0/U0Rx, 27 PA1/U0Tx, 28 PA2/SSI0Clk, 29 PA3/SSI0Fss, 30 PA4/SSI0Rx, 31 PA5/SSI0Tx, 32 VDD, 33 GND, 34 PA6/CCP1, 35 PA7/CCP4, 36 NC, 37 NC, 38 VDD25, 39 GND, 40 NC, 41 NC, 42 NC, 43 NC, 44 VDD, 45 GND, 46 PF5, 47 PF0/PWM0, 48 OSC0, 49 OSC1, 50 ~{WAKE}, 51 ~{HIB}, 52 XOSC0, 53 XOSC1, 54 GND, 55 VBAT, 56 VDD, 57 GND, 58 PF4, 59 PF3, 60 PF2, 61 PWM1/PF1, 62 VDD25, 63 GND, 64 ~{RST}, 65 CMOD0, 66 CCP0/PB0, 67 CCP2/PB1, 68 VDD, 69 GND, 70 I2C0SCL/PB2, 71 I2C0SDA/PB3, 72 PWM4/PE0, 73 PWM5/PE1, 74 PE2, 75 PE3, 76 CMOD1, 77 TDO/SWO/PC3, 78 TDI/PC2, 79 TMS/SWDIO/PC1, 80 TCK/SWCLK/PC0, 81 VDD, 82 GND, 83 PH3, 84 PH2, 85 PWM3/PH1, 86 PWM2/PH0, 87 GND, 88 VDD25, 89 ~{TRST}/PB7, 90 C0+/PB6, 91 C1-/PB5, 92 C0-/PB4, 93 VDD, 94 GND, 95 CCP3/PD4, 96 PD5, 97 GNDA, 98 VDDA, 99 Fault/PD6, 100 C0o/PD7

## LM3S2601
designator U?
footprint LQFP-100
pins: 1 PE7, 2 PE6/C1o, 3 VDDA, 4 GNDA, 5 PE5, 6 PE4, 7 LDO, 8 VDD, 9 GND, 10 PD0/CAN0Rx, 11 PD1/CAN0Tx, 12 PD2/U1Rx, 13 PD3/U1Tx, 14 VDD25, 15 GND, 16 PG3, 17 PG2, 18 PG1/U2Tx, 19 PG0/U2Rx, 20 VDD, 21 GND, 22 PC7/CCP4, 23 PC6/CCP3, 24 PC5/C1+, 25 PC4/CCP5, 26 PA0/U0Rx, 27 PA1/U0Tx, 28 PA2/SSI0Clk, 29 PA3/SSI0Fss, 30 PA4/SSI0Rx, 31 PA5/SSI0Tx, 32 VDD, 33 GND, 34 PA6/I2C1SCL, 35 PA7/I2C1SDA, 36 PG7, 37 PG6, 38 VDD25, 39 GND, 40 PG5, 41 PG4, 42 PF7, 43 PF6, 44 VDD, 45 GND, 46 PF5, 47 PF0, 48 OSC0, 49 OSC1, 50 ~{WAKE}, 51 ~{HIB}, 52 XOSC0, 53 XOSC1, 54 GND, 55 VBAT, 56 VDD, 57 GND, 58 C0o/PF4, 59 PF3, 60 PF2, 61 PF1, 62 VDD25, 63 GND, 64 ~{RST}, 65 CMOD0, 66 CCP0/PB0, 67 CCP2/PB1, 68 VDD, 69 GND, 70 I2C0SCL/PB2, 71 I2C0SDA/PB3, 72 SSI1Clk/PE0, 73 SSI1Fss/PE1, 74 SSI1Rx/PE2, 75 SSI1Tx/PE3, 76 CMOD1, 77 SWO/TDO/PC3, 78 TDI/PC2, 79 SWDIO/TMS/PC1, 80 SWCLK/TCK/PC0, 81 VDD, 82 GND, 83 PH3, 84 PH2, 85 CCP7/PH1, 86 CCP6/PH0, 87 GND, 88 VDD25, 89 ~{TRST}/PB7, 90 C0+/PB6, 91 C1-/PB5, 92 C0-/PB4, 93 VDD, 94 GND, 95 PD4, 96 PD5, 97 GNDA, 98 VDDA, 99 PD6, 100 CCP1/PD7

## LM3S2608
designator U?
footprint LQFP-100
pins: 1 ADC0, 2 ADC1, 3 VDDA, 4 GNDA, 5 ADC2, 6 ADC3, 7 LDO, 8 VDD, 9 GND, 10 PD0/CAN0Rx, 11 PD1/CAN0Tx, 12 PD2/U1Rx, 13 PD3/U1Tx, 14 VDD25, 15 GND, 16 PG3, 17 PG2, 18 PG1, 19 PG0, 20 VDD, 21 GND, 22 PC7/CCP4, 23 PC6/CCP3, 24 PC5/C1+, 25 PC4/CCP5, 26 PA0/U0Rx, 27 PA1/U0Tx, 28 PA2/SSI0Clk, 29 PA3/SSI0Fss, 30 PA4/SSI0Rx, 31 PA5/SSI0Tx, 32 VDD, 33 GND, 34 PA6/I2C1SCL, 35 PA7/I2C1SDA, 36 PG7, 37 PG6, 38 VDD25, 39 GND, 40 PG5, 41 PG4, 42 PF7, 43 PF6/CCP1, 44 VDD, 45 GND, 46 PF5/C1o, 47 PF0, 48 OSC0, 49 OSC1, 50 ~{WAKE}, 51 ~{HIB}, 52 XOSC0, 53 XOSC1, 54 GND, 55 VBAT, 56 VDD, 57 GND, 58 C0o/PF4, 59 PF3, 60 PF2, 61 PF1, 62 VDD25, 63 GND, 64 ~{RST}, 65 CMOD0, 66 CCP0/PB0, 67 CCP2/PB1, 68 VDD, 69 GND, 70 I2C0SCL/PB2, 71 I2C0SDA/PB3, 72 SSI1Clk/PE0, 73 SSI1Fss/PE1, 74 SSI1Rx/PE2, 75 SSI1Tx/PE3, 76 CMOD1, 77 SWO/TDO/PC3, 78 TDI/PC2, 79 SWDIO/TMS/PC1, 80 SWCLK/TCK/PC0, 81 VDD, 82 GND, 83 PH3, 84 PH2, 85 CCP7/PH1, 86 CCP6/PH0, 87 GND, 88 VDD25, 89 ~{TRST}/PB7, 90 C0+/PB6, 91 C1-/PB5, 92 C0-/PB4, 93 VDD, 94 GND, 95 ADC7, 96 ADC6, 97 GNDA, 98 VDDA, 99 ADC5, 100 ADC4

## LM3S2620
designator U?
footprint LQFP-100
pins: 1 PE7/C2o, 2 PE6/C1o, 3 VDDA, 4 GNDA, 5 PE5/CCP5, 6 PE4, 7 LDO, 8 VDD, 9 GND, 10 PD0/CAN0Rx, 11 PD1/CAN0Tx, 12 PD2/PWM2, 13 PD3/PWM3, 14 VDD25, 15 GND, 16 NC, 17 NC, 18 PG1/PWM1, 19 PG0/PWM0, 20 VDD, 21 GND, 22 PC7/C2-, 23 PC6/C2+, 24 PC5/C1+, 25 PC4/PhA0, 26 PA0/U0Rx, 27 PA1/U0Tx, 28 PA2/SSI0Clk, 29 PA3/SSI0Fss, 30 PA4/SSI0Rx, 31 PA5/SSI0Tx, 32 VDD, 33 GND, 34 PA6/CCP1, 35 PA7/CCP4, 36 NC, 37 NC, 38 VDD25, 39 GND, 40 NC, 41 NC, 42 NC, 43 NC, 44 VDD, 45 GND, 46 PF5, 47 PF0/CNA1Rx, 48 OSC0, 49 OSC1, 50 ~{WAKE}, 51 ~{HIB}, 52 XOSC0, 53 XOSC1, 54 GND, 55 VBAT, 56 VDD, 57 GND, 58 C0o/PF4, 59 PF3, 60 PF2, 61 CAN1Tx/PF1, 62 VDD25, 63 GND, 64 ~{RST}, 65 CMOD0, 66 CCP0/PB0, 67 CCP2/PB1, 68 VDD, 69 GND, 70 I2C0SCL/PB2, 71 I2C0SDA/PB3, 72 PE0, 73 PE1, 74 PE2, 75 PE3, 76 CMOD1, 77 TDO/SWO/PC3, 78 TDI/PC2, 79 TMS/SWDIO/PC1, 80 TCK/SWCLK/PC0, 81 VDD, 82 GND, 83 PhB0/PH3, 84 PH2, 85 CCP7/PH1, 86 PH0, 87 GND, 88 VDD25, 89 ~{TRST}/PB7, 90 C0+/PB6, 91 C1-/PB5, 92 C0-/PB4, 93 VDD, 94 GND, 95 CCP3PD4, 96 PD5, 97 GNDA, 98 VDDA, 99 Fault/PD6, 100 IDX0/PD7

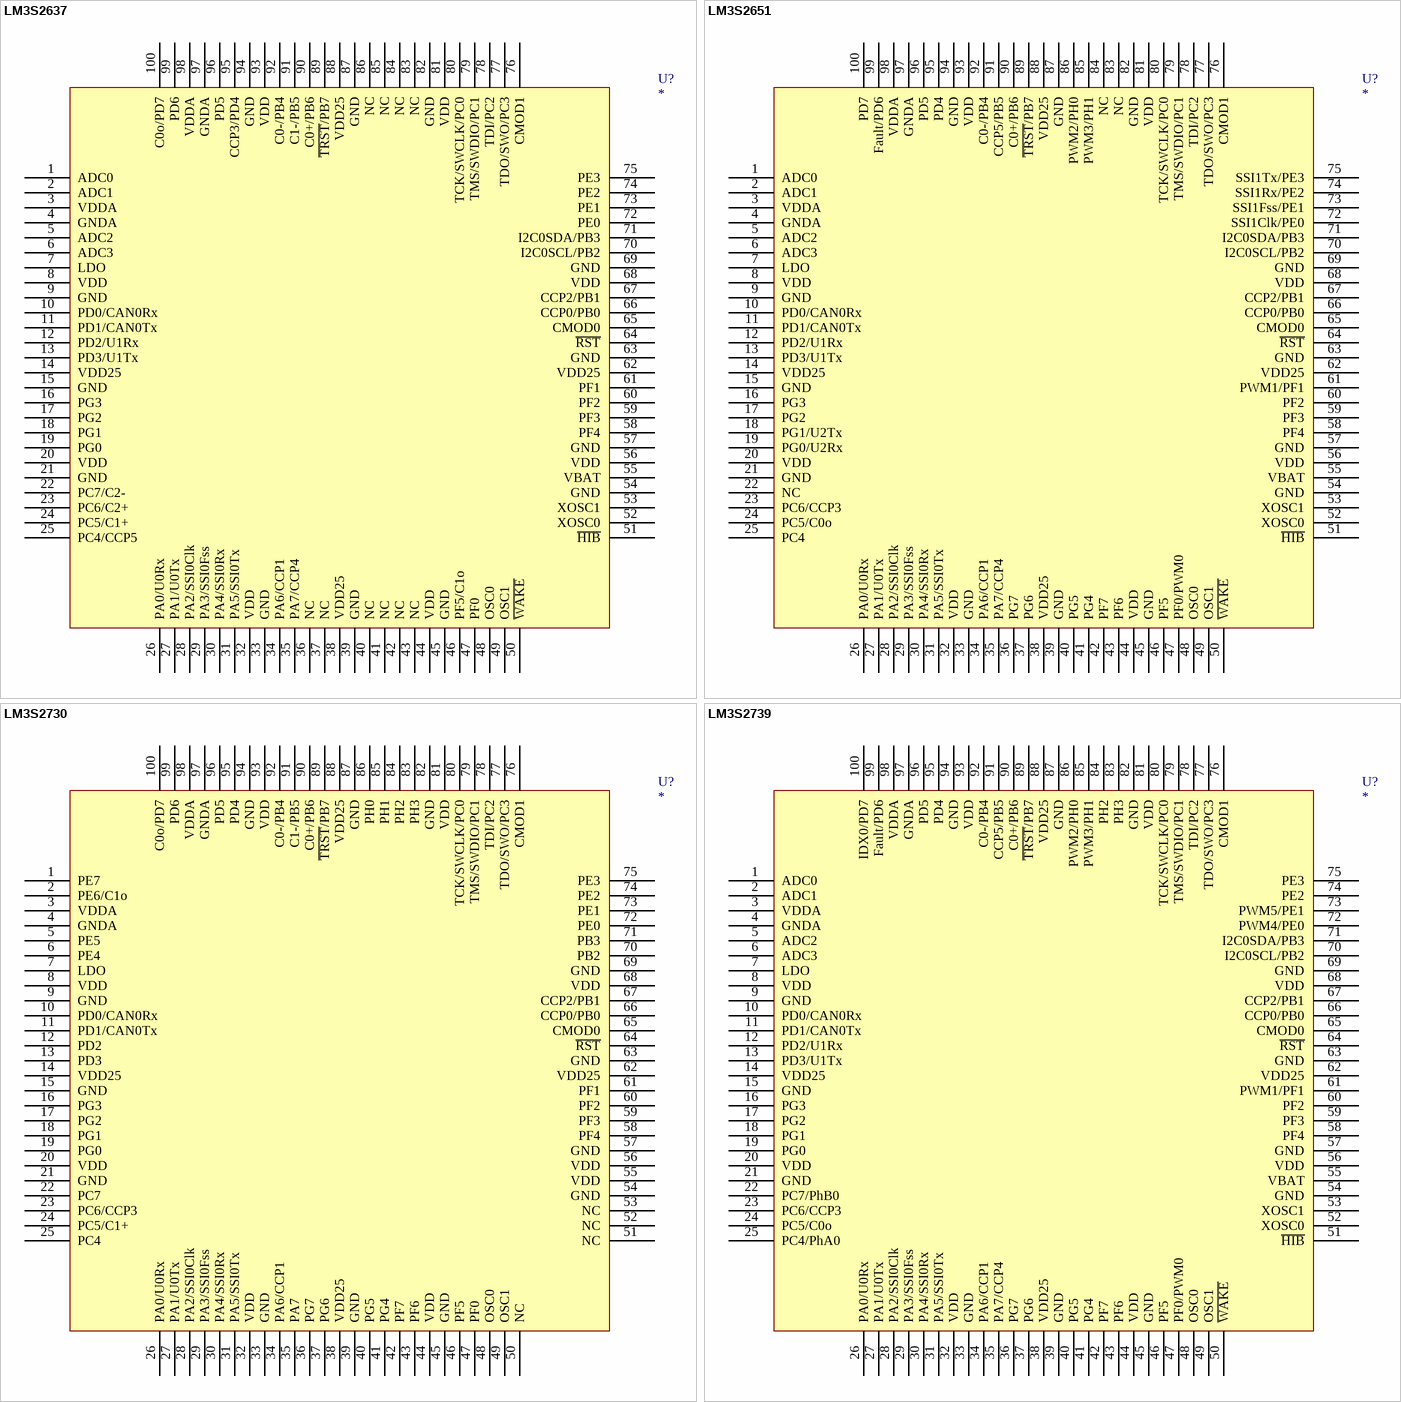
[diagram p30: symbols LM3S2637 to LM3S2739]

## LM3S2637
designator U?
footprint LQFP-100
pins: 1 ADC0, 2 ADC1, 3 VDDA, 4 GNDA, 5 ADC2, 6 ADC3, 7 LDO, 8 VDD, 9 GND, 10 PD0/CAN0Rx, 11 PD1/CAN0Tx, 12 PD2/U1Rx, 13 PD3/U1Tx, 14 VDD25, 15 GND, 16 PG3, 17 PG2, 18 PG1, 19 PG0, 20 VDD, 21 GND, 22 PC7/C2-, 23 PC6/C2+, 24 PC5/C1+, 25 PC4/CCP5, 26 PA0/U0Rx, 27 PA1/U0Tx, 28 PA2/SSI0Clk, 29 PA3/SSI0Fss, 30 PA4/SSI0Rx, 31 PA5/SSI0Tx, 32 VDD, 33 GND, 34 PA6/CCP1, 35 PA7/CCP4, 36 NC, 37 NC, 38 VDD25, 39 GND, 40 NC, 41 NC, 42 NC, 43 NC, 44 VDD, 45 GND, 46 PF5/C1o, 47 PF0, 48 OSC0, 49 OSC1, 50 ~{WAKE}, 51 ~{HIB}, 52 XOSC0, 53 XOSC1, 54 GND, 55 VBAT, 56 VDD, 57 GND, 58 PF4, 59 PF3, 60 PF2, 61 PF1, 62 VDD25, 63 GND, 64 ~{RST}, 65 CMOD0, 66 CCP0/PB0, 67 CCP2/PB1, 68 VDD, 69 GND, 70 I2C0SCL/PB2, 71 I2C0SDA/PB3, 72 PE0, 73 PE1, 74 PE2, 75 PE3, 76 CMOD1, 77 TDO/SWO/PC3, 78 TDI/PC2, 79 TMS/SWDIO/PC1, 80 TCK/SWCLK/PC0, 81 VDD, 82 GND, 83 NC, 84 NC, 85 NC, 86 NC, 87 GND, 88 VDD25, 89 ~{TRST}/PB7, 90 C0+/PB6, 91 C1-/PB5, 92 C0-/PB4, 93 VDD, 94 GND, 95 CCP3/PD4, 96 PD5, 97 GNDA, 98 VDDA, 99 PD6, 100 C0o/PD7

## LM3S2651
designator U?
footprint LQFP-100
pins: 1 ADC0, 2 ADC1, 3 VDDA, 4 GNDA, 5 ADC2, 6 ADC3, 7 LDO, 8 VDD, 9 GND, 10 PD0/CAN0Rx, 11 PD1/CAN0Tx, 12 PD2/U1Rx, 13 PD3/U1Tx, 14 VDD25, 15 GND, 16 PG3, 17 PG2, 18 PG1/U2Tx, 19 PG0/U2Rx, 20 VDD, 21 GND, 22 NC, 23 PC6/CCP3, 24 PC5/C0o, 25 PC4, 26 PA0/U0Rx, 27 PA1/U0Tx, 28 PA2/SSI0Clk, 29 PA3/SSI0Fss, 30 PA4/SSI0Rx, 31 PA5/SSI0Tx, 32 VDD, 33 GND, 34 PA6/CCP1, 35 PA7/CCP4, 36 PG7, 37 PG6, 38 VDD25, 39 GND, 40 PG5, 41 PG4, 42 PF7, 43 PF6, 44 VDD, 45 GND, 46 PF5, 47 PF0/PWM0, 48 OSC0, 49 OSC1, 50 ~{WAKE}, 51 ~{HIB}, 52 XOSC0, 53 XOSC1, 54 GND, 55 VBAT, 56 VDD, 57 GND, 58 PF4, 59 PF3, 60 PF2, 61 PWM1/PF1, 62 VDD25, 63 GND, 64 ~{RST}, 65 CMOD0, 66 CCP0/PB0, 67 CCP2/PB1, 68 VDD, 69 GND, 70 I2C0SCL/PB2, 71 I2C0SDA/PB3, 72 SSI1Clk/PE0, 73 SSI1Fss/PE1, 74 SSI1Rx/PE2, 75 SSI1Tx/PE3, 76 CMOD1, 77 TDO/SWO/PC3, 78 TDI/PC2, 79 TMS/SWDIO/PC1, 80 TCK/SWCLK/PC0, 81 VDD, 82 GND, 83 NC, 84 NC, 85 PWM3/PH1, 86 PWM2/PH0, 87 GND, 88 VDD25, 89 ~{TRST}/PB7, 90 C0+/PB6, 91 CCP5/PB5, 92 C0-/PB4, 93 VDD, 94 GND, 95 PD4, 96 PD5, 97 GNDA, 98 VDDA, 99 Fault/PD6, 100 PD7

## LM3S2730
designator U?
footprint LQFP-100
pins: 1 PE7, 2 PE6/C1o, 3 VDDA, 4 GNDA, 5 PE5, 6 PE4, 7 LDO, 8 VDD, 9 GND, 10 PD0/CAN0Rx, 11 PD1/CAN0Tx, 12 PD2, 13 PD3, 14 VDD25, 15 GND, 16 PG3, 17 PG2, 18 PG1, 19 PG0, 20 VDD, 21 GND, 22 PC7, 23 PC6/CCP3, 24 PC5/C1+, 25 PC4, 26 PA0/U0Rx, 27 PA1/U0Tx, 28 PA2/SSI0Clk, 29 PA3/SSI0Fss, 30 PA4/SSI0Rx, 31 PA5/SSI0Tx, 32 VDD, 33 GND, 34 PA6/CCP1, 35 PA7, 36 PG7, 37 PG6, 38 VDD25, 39 GND, 40 PG5, 41 PG4, 42 PF7, 43 PF6, 44 VDD, 45 GND, 46 PF5, 47 PF0, 48 OSC0, 49 OSC1, 50 NC, 51 NC, 52 NC, 53 NC, 54 GND, 55 VDD, 56 VDD, 57 GND, 58 PF4, 59 PF3, 60 PF2, 61 PF1, 62 VDD25, 63 GND, 64 ~{RST}, 65 CMOD0, 66 CCP0/PB0, 67 CCP2/PB1, 68 VDD, 69 GND, 70 PB2, 71 PB3, 72 PE0, 73 PE1, 74 PE2, 75 PE3, 76 CMOD1, 77 TDO/SWO/PC3, 78 TDI/PC2, 79 TMS/SWDIO/PC1, 80 TCK/SWCLK/PC0, 81 VDD, 82 GND, 83 PH3, 84 PH2, 85 PH1, 86 PH0, 87 GND, 88 VDD25, 89 ~{TRST}/PB7, 90 C0+/PB6, 91 C1-/PB5, 92 C0-/PB4, 93 VDD, 94 GND, 95 PD4, 96 PD5, 97 GNDA, 98 VDDA, 99 PD6, 100 C0o/PD7

## LM3S2739
designator U?
footprint LQFP-100
pins: 1 ADC0, 2 ADC1, 3 VDDA, 4 GNDA, 5 ADC2, 6 ADC3, 7 LDO, 8 VDD, 9 GND, 10 PD0/CAN0Rx, 11 PD1/CAN0Tx, 12 PD2/U1Rx, 13 PD3/U1Tx, 14 VDD25, 15 GND, 16 PG3, 17 PG2, 18 PG1, 19 PG0, 20 VDD, 21 GND, 22 PC7/PhB0, 23 PC6/CCP3, 24 PC5/C0o, 25 PC4/PhA0, 26 PA0/U0Rx, 27 PA1/U0Tx, 28 PA2/SSI0Clk, 29 PA3/SSI0Fss, 30 PA4/SSI0Rx, 31 PA5/SSI0Tx, 32 VDD, 33 GND, 34 PA6/CCP1, 35 PA7/CCP4, 36 PG7, 37 PG6, 38 VDD25, 39 GND, 40 PG5, 41 PG4, 42 PF7, 43 PF6, 44 VDD, 45 GND, 46 PF5, 47 PF0/PWM0, 48 OSC0, 49 OSC1, 50 ~{WAKE}, 51 ~{HIB}, 52 XOSC0, 53 XOSC1, 54 GND, 55 VBAT, 56 VDD, 57 GND, 58 PF4, 59 PF3, 60 PF2, 61 PWM1/PF1, 62 VDD25, 63 GND, 64 ~{RST}, 65 CMOD0, 66 CCP0/PB0, 67 CCP2/PB1, 68 VDD, 69 GND, 70 I2C0SCL/PB2, 71 I2C0SDA/PB3, 72 PWM4/PE0, 73 PWM5/PE1, 74 PE2, 75 PE3, 76 CMOD1, 77 TDO/SWO/PC3, 78 TDI/PC2, 79 TMS/SWDIO/PC1, 80 TCK/SWCLK/PC0, 81 VDD, 82 GND, 83 PH3, 84 PH2, 85 PWM3/PH1, 86 PWM2/PH0, 87 GND, 88 VDD25, 89 ~{TRST}/PB7, 90 C0+/PB6, 91 CCP5/PB5, 92 C0-/PB4, 93 VDD, 94 GND, 95 PD4, 96 PD5, 97 GNDA, 98 VDDA, 99 Fault/PD6, 100 IDX0/PD7

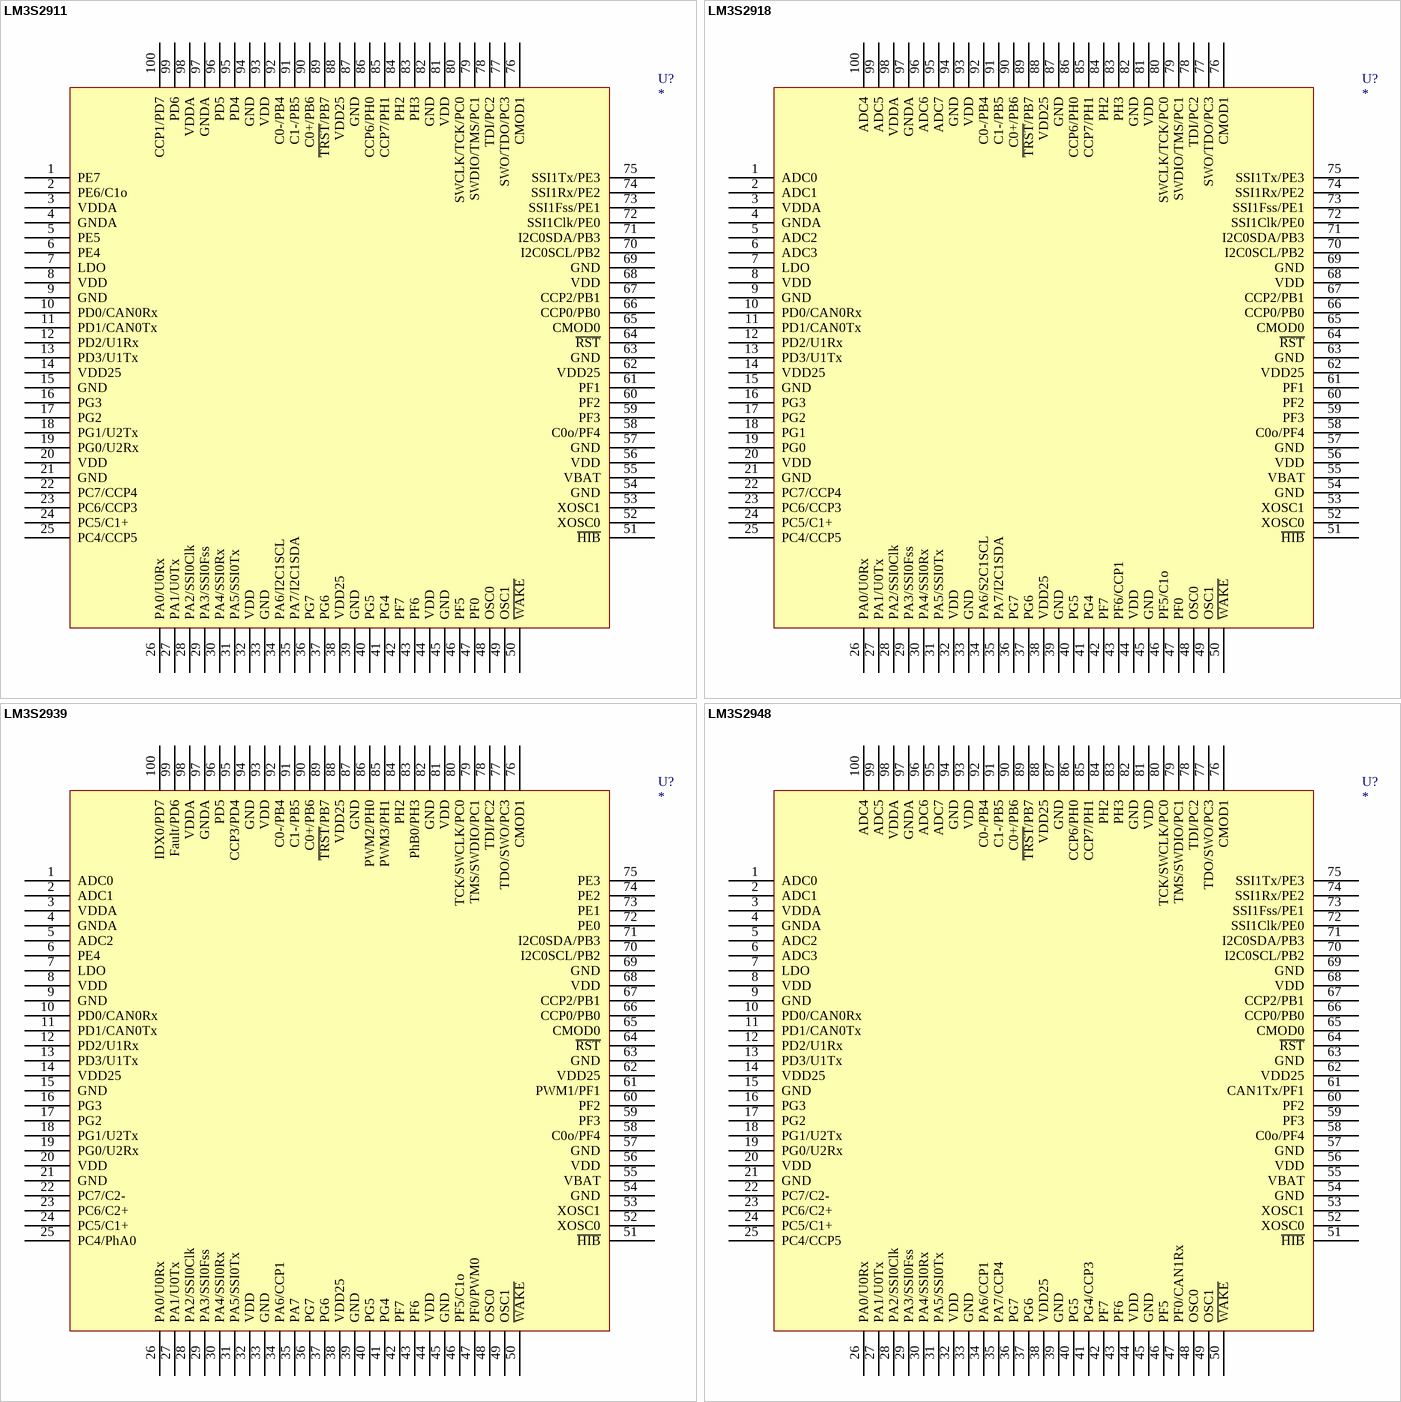
[diagram p31: symbols LM3S2911 to LM3S2948]

## LM3S2911
designator U?
footprint LQFP-100
pins: 1 PE7, 2 PE6/C1o, 3 VDDA, 4 GNDA, 5 PE5, 6 PE4, 7 LDO, 8 VDD, 9 GND, 10 PD0/CAN0Rx, 11 PD1/CAN0Tx, 12 PD2/U1Rx, 13 PD3/U1Tx, 14 VDD25, 15 GND, 16 PG3, 17 PG2, 18 PG1/U2Tx, 19 PG0/U2Rx, 20 VDD, 21 GND, 22 PC7/CCP4, 23 PC6/CCP3, 24 PC5/C1+, 25 PC4/CCP5, 26 PA0/U0Rx, 27 PA1/U0Tx, 28 PA2/SSI0Clk, 29 PA3/SSI0Fss, 30 PA4/SSI0Rx, 31 PA5/SSI0Tx, 32 VDD, 33 GND, 34 PA6/I2C1SCL, 35 PA7/I2C1SDA, 36 PG7, 37 PG6, 38 VDD25, 39 GND, 40 PG5, 41 PG4, 42 PF7, 43 PF6, 44 VDD, 45 GND, 46 PF5, 47 PF0, 48 OSC0, 49 OSC1, 50 ~{WAKE}, 51 ~{HIB}, 52 XOSC0, 53 XOSC1, 54 GND, 55 VBAT, 56 VDD, 57 GND, 58 C0o/PF4, 59 PF3, 60 PF2, 61 PF1, 62 VDD25, 63 GND, 64 ~{RST}, 65 CMOD0, 66 CCP0/PB0, 67 CCP2/PB1, 68 VDD, 69 GND, 70 I2C0SCL/PB2, 71 I2C0SDA/PB3, 72 SSI1Clk/PE0, 73 SSI1Fss/PE1, 74 SSI1Rx/PE2, 75 SSI1Tx/PE3, 76 CMOD1, 77 SWO/TDO/PC3, 78 TDI/PC2, 79 SWDIO/TMS/PC1, 80 SWCLK/TCK/PC0, 81 VDD, 82 GND, 83 PH3, 84 PH2, 85 CCP7/PH1, 86 CCP6/PH0, 87 GND, 88 VDD25, 89 ~{TRST}/PB7, 90 C0+/PB6, 91 C1-/PB5, 92 C0-/PB4, 93 VDD, 94 GND, 95 PD4, 96 PD5, 97 GNDA, 98 VDDA, 99 PD6, 100 CCP1/PD7

## LM3S2918
designator U?
footprint LQFP-100
pins: 1 ADC0, 2 ADC1, 3 VDDA, 4 GNDA, 5 ADC2, 6 ADC3, 7 LDO, 8 VDD, 9 GND, 10 PD0/CAN0Rx, 11 PD1/CAN0Tx, 12 PD2/U1Rx, 13 PD3/U1Tx, 14 VDD25, 15 GND, 16 PG3, 17 PG2, 18 PG1, 19 PG0, 20 VDD, 21 GND, 22 PC7/CCP4, 23 PC6/CCP3, 24 PC5/C1+, 25 PC4/CCP5, 26 PA0/U0Rx, 27 PA1/U0Tx, 28 PA2/SSI0Clk, 29 PA3/SSI0Fss, 30 PA4/SSI0Rx, 31 PA5/SSI0Tx, 32 VDD, 33 GND, 34 PA6/S2C1SCL, 35 PA7/I2C1SDA, 36 PG7, 37 PG6, 38 VDD25, 39 GND, 40 PG5, 41 PG4, 42 PF7, 43 PF6/CCP1, 44 VDD, 45 GND, 46 PF5/C1o, 47 PF0, 48 OSC0, 49 OSC1, 50 ~{WAKE}, 51 ~{HIB}, 52 XOSC0, 53 XOSC1, 54 GND, 55 VBAT, 56 VDD, 57 GND, 58 C0o/PF4, 59 PF3, 60 PF2, 61 PF1, 62 VDD25, 63 GND, 64 ~{RST}, 65 CMOD0, 66 CCP0/PB0, 67 CCP2/PB1, 68 VDD, 69 GND, 70 I2C0SCL/PB2, 71 I2C0SDA/PB3, 72 SSI1Clk/PE0, 73 SSI1Fss/PE1, 74 SSI1Rx/PE2, 75 SSI1Tx/PE3, 76 CMOD1, 77 SWO/TDO/PC3, 78 TDI/PC2, 79 SWDIO/TMS/PC1, 80 SWCLK/TCK/PC0, 81 VDD, 82 GND, 83 PH3, 84 PH2, 85 CCP7/PH1, 86 CCP6/PH0, 87 GND, 88 VDD25, 89 ~{TRST}/PB7, 90 C0+/PB6, 91 C1-/PB5, 92 C0-/PB4, 93 VDD, 94 GND, 95 ADC7, 96 ADC6, 97 GNDA, 98 VDDA, 99 ADC5, 100 ADC4

## LM3S2939
designator U?
footprint LQFP-100
pins: 1 ADC0, 2 ADC1, 3 VDDA, 4 GNDA, 5 ADC2, 6 PE4, 7 LDO, 8 VDD, 9 GND, 10 PD0/CAN0Rx, 11 PD1/CAN0Tx, 12 PD2/U1Rx, 13 PD3/U1Tx, 14 VDD25, 15 GND, 16 PG3, 17 PG2, 18 PG1/U2Tx, 19 PG0/U2Rx, 20 VDD, 21 GND, 22 PC7/C2-, 23 PC6/C2+, 24 PC5/C1+, 25 PC4/PhA0, 26 PA0/U0Rx, 27 PA1/U0Tx, 28 PA2/SSI0Clk, 29 PA3/SSI0Fss, 30 PA4/SSI0Rx, 31 PA5/SSI0Tx, 32 VDD, 33 GND, 34 PA6/CCP1, 35 PA7, 36 PG7, 37 PG6, 38 VDD25, 39 GND, 40 PG5, 41 PG4, 42 PF7, 43 PF6, 44 VDD, 45 GND, 46 PF5/C1o, 47 PF0/PWM0, 48 OSC0, 49 OSC1, 50 ~{WAKE}, 51 ~{HIB}, 52 XOSC0, 53 XOSC1, 54 GND, 55 VBAT, 56 VDD, 57 GND, 58 C0o/PF4, 59 PF3, 60 PF2, 61 PWM1/PF1, 62 VDD25, 63 GND, 64 ~{RST}, 65 CMOD0, 66 CCP0/PB0, 67 CCP2/PB1, 68 VDD, 69 GND, 70 I2C0SCL/PB2, 71 I2C0SDA/PB3, 72 PE0, 73 PE1, 74 PE2, 75 PE3, 76 CMOD1, 77 TDO/SWO/PC3, 78 TDI/PC2, 79 TMS/SWDIO/PC1, 80 TCK/SWCLK/PC0, 81 VDD, 82 GND, 83 PhB0/PH3, 84 PH2, 85 PWM3/PH1, 86 PWM2/PH0, 87 GND, 88 VDD25, 89 ~{TRST}/PB7, 90 C0+/PB6, 91 C1-/PB5, 92 C0-/PB4, 93 VDD, 94 GND, 95 CCP3/PD4, 96 PD5, 97 GNDA, 98 VDDA, 99 Fault/PD6, 100 IDX0/PD7

## LM3S2948
designator U?
footprint LQFP-100
pins: 1 ADC0, 2 ADC1, 3 VDDA, 4 GNDA, 5 ADC2, 6 ADC3, 7 LDO, 8 VDD, 9 GND, 10 PD0/CAN0Rx, 11 PD1/CAN0Tx, 12 PD2/U1Rx, 13 PD3/U1Tx, 14 VDD25, 15 GND, 16 PG3, 17 PG2, 18 PG1/U2Tx, 19 PG0/U2Rx, 20 VDD, 21 GND, 22 PC7/C2-, 23 PC6/C2+, 24 PC5/C1+, 25 PC4/CCP5, 26 PA0/U0Rx, 27 PA1/U0Tx, 28 PA2/SSI0Clk, 29 PA3/SSI0Fss, 30 PA4/SSI0Rx, 31 PA5/SSI0Tx, 32 VDD, 33 GND, 34 PA6/CCP1, 35 PA7/CCP4, 36 PG7, 37 PG6, 38 VDD25, 39 GND, 40 PG5, 41 PG4/CCP3, 42 PF7, 43 PF6, 44 VDD, 45 GND, 46 PF5, 47 PF0/CAN1Rx, 48 OSC0, 49 OSC1, 50 ~{WAKE}, 51 ~{HIB}, 52 XOSC0, 53 XOSC1, 54 GND, 55 VBAT, 56 VDD, 57 GND, 58 C0o/PF4, 59 PF3, 60 PF2, 61 CAN1Tx/PF1, 62 VDD25, 63 GND, 64 ~{RST}, 65 CMOD0, 66 CCP0/PB0, 67 CCP2/PB1, 68 VDD, 69 GND, 70 I2C0SCL/PB2, 71 I2C0SDA/PB3, 72 SSI1Clk/PE0, 73 SSI1Fss/PE1, 74 SSI1Rx/PE2, 75 SSI1Tx/PE3, 76 CMOD1, 77 TDO/SWO/PC3, 78 TDI/PC2, 79 TMS/SWDIO/PC1, 80 TCK/SWCLK/PC0, 81 VDD, 82 GND, 83 PH3, 84 PH2, 85 CCP7/PH1, 86 CCP6/PH0, 87 GND, 88 VDD25, 89 ~{TRST}/PB7, 90 C0+/PB6, 91 C1-/PB5, 92 C0-/PB4, 93 VDD, 94 GND, 95 ADC7, 96 ADC6, 97 GNDA, 98 VDDA, 99 ADC5, 100 ADC4

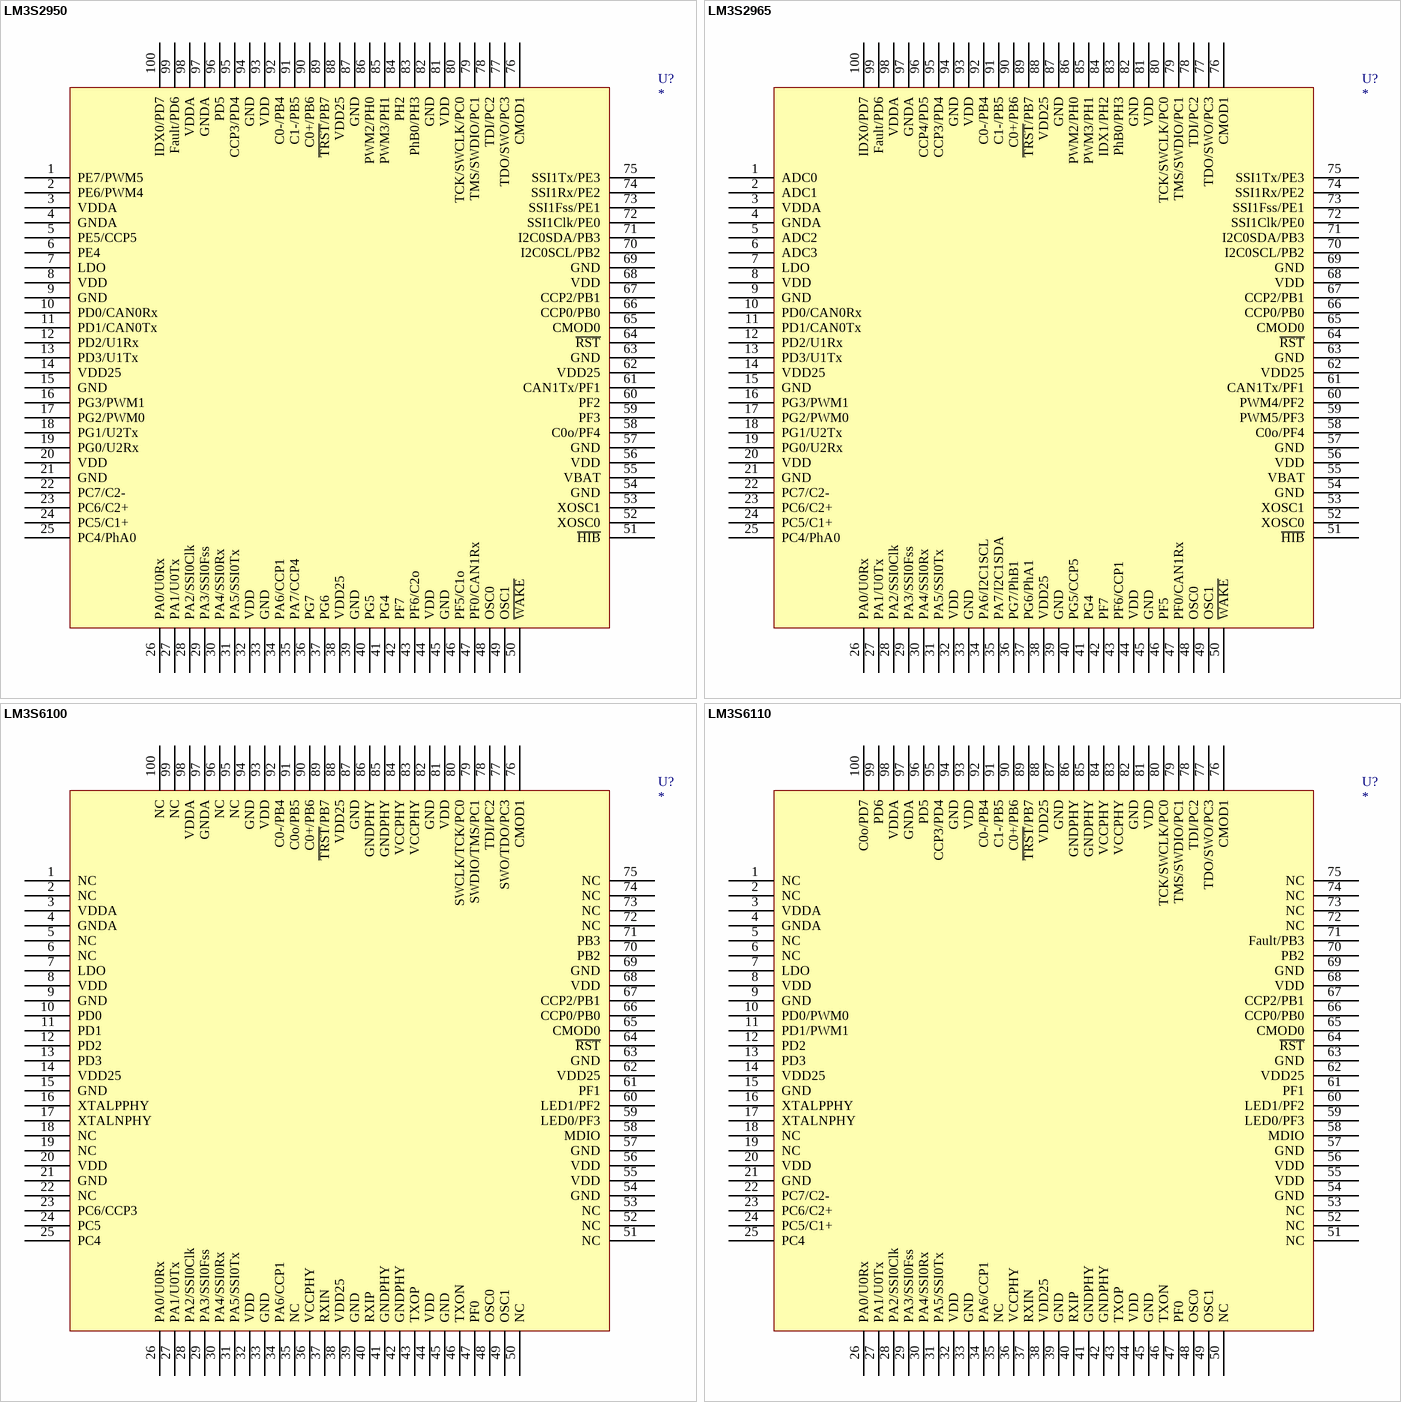
[diagram p32: symbols LM3S2950 to LM3S6110]

## LM3S2950
designator U?
footprint LQFP-100
pins: 1 PE7/PWM5, 2 PE6/PWM4, 3 VDDA, 4 GNDA, 5 PE5/CCP5, 6 PE4, 7 LDO, 8 VDD, 9 GND, 10 PD0/CAN0Rx, 11 PD1/CAN0Tx, 12 PD2/U1Rx, 13 PD3/U1Tx, 14 VDD25, 15 GND, 16 PG3/PWM1, 17 PG2/PWM0, 18 PG1/U2Tx, 19 PG0/U2Rx, 20 VDD, 21 GND, 22 PC7/C2-, 23 PC6/C2+, 24 PC5/C1+, 25 PC4/PhA0, 26 PA0/U0Rx, 27 PA1/U0Tx, 28 PA2/SSI0Clk, 29 PA3/SSI0Fss, 30 PA4/SSI0Rx, 31 PA5/SSI0Tx, 32 VDD, 33 GND, 34 PA6/CCP1, 35 PA7/CCP4, 36 PG7, 37 PG6, 38 VDD25, 39 GND, 40 PG5, 41 PG4, 42 PF7, 43 PF6/C2o, 44 VDD, 45 GND, 46 PF5/C1o, 47 PF0/CAN1Rx, 48 OSC0, 49 OSC1, 50 ~{WAKE}, 51 ~{HIB}, 52 XOSC0, 53 XOSC1, 54 GND, 55 VBAT, 56 VDD, 57 GND, 58 C0o/PF4, 59 PF3, 60 PF2, 61 CAN1Tx/PF1, 62 VDD25, 63 GND, 64 ~{RST}, 65 CMOD0, 66 CCP0/PB0, 67 CCP2/PB1, 68 VDD, 69 GND, 70 I2C0SCL/PB2, 71 I2C0SDA/PB3, 72 SSI1Clk/PE0, 73 SSI1Fss/PE1, 74 SSI1Rx/PE2, 75 SSI1Tx/PE3, 76 CMOD1, 77 TDO/SWO/PC3, 78 TDI/PC2, 79 TMS/SWDIO/PC1, 80 TCK/SWCLK/PC0, 81 VDD, 82 GND, 83 PhB0/PH3, 84 PH2, 85 PWM3/PH1, 86 PWM2/PH0, 87 GND, 88 VDD25, 89 ~{TRST}/PB7, 90 C0+/PB6, 91 C1-/PB5, 92 C0-/PB4, 93 VDD, 94 GND, 95 CCP3/PD4, 96 PD5, 97 GNDA, 98 VDDA, 99 Fault/PD6, 100 IDX0/PD7

## LM3S2965
designator U?
footprint LQFP-100
pins: 1 ADC0, 2 ADC1, 3 VDDA, 4 GNDA, 5 ADC2, 6 ADC3, 7 LDO, 8 VDD, 9 GND, 10 PD0/CAN0Rx, 11 PD1/CAN0Tx, 12 PD2/U1Rx, 13 PD3/U1Tx, 14 VDD25, 15 GND, 16 PG3/PWM1, 17 PG2/PWM0, 18 PG1/U2Tx, 19 PG0/U2Rx, 20 VDD, 21 GND, 22 PC7/C2-, 23 PC6/C2+, 24 PC5/C1+, 25 PC4/PhA0, 26 PA0/U0Rx, 27 PA1/U0Tx, 28 PA2/SSI0Clk, 29 PA3/SSI0Fss, 30 PA4/SSI0Rx, 31 PA5/SSI0Tx, 32 VDD, 33 GND, 34 PA6/I2C1SCL, 35 PA7/I2C1SDA, 36 PG7/PhB1, 37 PG6/PhA1, 38 VDD25, 39 GND, 40 PG5/CCP5, 41 PG4, 42 PF7, 43 PF6/CCP1, 44 VDD, 45 GND, 46 PF5, 47 PF0/CAN1Rx, 48 OSC0, 49 OSC1, 50 ~{WAKE}, 51 ~{HIB}, 52 XOSC0, 53 XOSC1, 54 GND, 55 VBAT, 56 VDD, 57 GND, 58 C0o/PF4, 59 PWM5/PF3, 60 PWM4/PF2, 61 CAN1Tx/PF1, 62 VDD25, 63 GND, 64 ~{RST}, 65 CMOD0, 66 CCP0/PB0, 67 CCP2/PB1, 68 VDD, 69 GND, 70 I2C0SCL/PB2, 71 I2C0SDA/PB3, 72 SSI1Clk/PE0, 73 SSI1Fss/PE1, 74 SSI1Rx/PE2, 75 SSI1Tx/PE3, 76 CMOD1, 77 TDO/SWO/PC3, 78 TDI/PC2, 79 TMS/SWDIO/PC1, 80 TCK/SWCLK/PC0, 81 VDD, 82 GND, 83 PhB0/PH3, 84 IDX1/PH2, 85 PWM3/PH1, 86 PWM2/PH0, 87 GND, 88 VDD25, 89 ~{TRST}/PB7, 90 C0+/PB6, 91 C1-/PB5, 92 C0-/PB4, 93 VDD, 94 GND, 95 CCP3/PD4, 96 CCP4/PD5, 97 GNDA, 98 VDDA, 99 Fault/PD6, 100 IDX0/PD7

## LM3S6100
designator U?
footprint LQFP-100
pins: 1 NC, 2 NC, 3 VDDA, 4 GNDA, 5 NC, 6 NC, 7 LDO, 8 VDD, 9 GND, 10 PD0, 11 PD1, 12 PD2, 13 PD3, 14 VDD25, 15 GND, 16 XTALPPHY, 17 XTALNPHY, 18 NC, 19 NC, 20 VDD, 21 GND, 22 NC, 23 PC6/CCP3, 24 PC5, 25 PC4, 26 PA0/U0Rx, 27 PA1/U0Tx, 28 PA2/SSI0Clk, 29 PA3/SSI0Fss, 30 PA4/SSI0Rx, 31 PA5/SSI0Tx, 32 VDD, 33 GND, 34 PA6/CCP1, 35 NC, 36 VCCPHY, 37 RXIN, 38 VDD25, 39 GND, 40 RXIP, 41 GNDPHY, 42 GNDPHY, 43 TXOP, 44 VDD, 45 GND, 46 TXON, 47 PF0, 48 OSC0, 49 OSC1, 50 NC, 51 NC, 52 NC, 53 NC, 54 GND, 55 VDD, 56 VDD, 57 GND, 58 MDIO, 59 LED0/PF3, 60 LED1/PF2, 61 PF1, 62 VDD25, 63 GND, 64 ~{RST}, 65 CMOD0, 66 CCP0/PB0, 67 CCP2/PB1, 68 VDD, 69 GND, 70 PB2, 71 PB3, 72 NC, 73 NC, 74 NC, 75 NC, 76 CMOD1, 77 SWO/TDO/PC3, 78 TDI/PC2, 79 SWDIO/TMS/PC1, 80 SWCLK/TCK/PC0, 81 VDD, 82 GND, 83 VCCPHY, 84 VCCPHY, 85 GNDPHY, 86 GNDPHY, 87 GND, 88 VDD25, 89 ~{TRST}/PB7, 90 C0+/PB6, 91 C0o/PB5, 92 C0-/PB4, 93 VDD, 94 GND, 95 NC, 96 NC, 97 GNDA, 98 VDDA, 99 NC, 100 NC

## LM3S6110
designator U?
footprint LQFP-100
pins: 1 NC, 2 NC, 3 VDDA, 4 GNDA, 5 NC, 6 NC, 7 LDO, 8 VDD, 9 GND, 10 PD0/PWM0, 11 PD1/PWM1, 12 PD2, 13 PD3, 14 VDD25, 15 GND, 16 XTALPPHY, 17 XTALNPHY, 18 NC, 19 NC, 20 VDD, 21 GND, 22 PC7/C2-, 23 PC6/C2+, 24 PC5/C1+, 25 PC4, 26 PA0/U0Rx, 27 PA1/U0Tx, 28 PA2/SSI0Clk, 29 PA3/SSI0Fss, 30 PA4/SSI0Rx, 31 PA5/SSI0Tx, 32 VDD, 33 GND, 34 PA6/CCP1, 35 NC, 36 VCCPHY, 37 RXIN, 38 VDD25, 39 GND, 40 RXIP, 41 GNDPHY, 42 GNDPHY, 43 TXOP, 44 VDD, 45 GND, 46 TXON, 47 PF0, 48 OSC0, 49 OSC1, 50 NC, 51 NC, 52 NC, 53 NC, 54 GND, 55 VDD, 56 VDD, 57 GND, 58 MDIO, 59 LED0/PF3, 60 LED1/PF2, 61 PF1, 62 VDD25, 63 GND, 64 ~{RST}, 65 CMOD0, 66 CCP0/PB0, 67 CCP2/PB1, 68 VDD, 69 GND, 70 PB2, 71 Fault/PB3, 72 NC, 73 NC, 74 NC, 75 NC, 76 CMOD1, 77 TDO/SWO/PC3, 78 TDI/PC2, 79 TMS/SWDIO/PC1, 80 TCK/SWCLK/PC0, 81 VDD, 82 GND, 83 VCCPHY, 84 VCCPHY, 85 GNDPHY, 86 GNDPHY, 87 GND, 88 VDD25, 89 ~{TRST}/PB7, 90 C0+/PB6, 91 C1-/PB5, 92 C0-/PB4, 93 VDD, 94 GND, 95 CCP3/PD4, 96 PD5, 97 GNDA, 98 VDDA, 99 PD6, 100 C0o/PD7

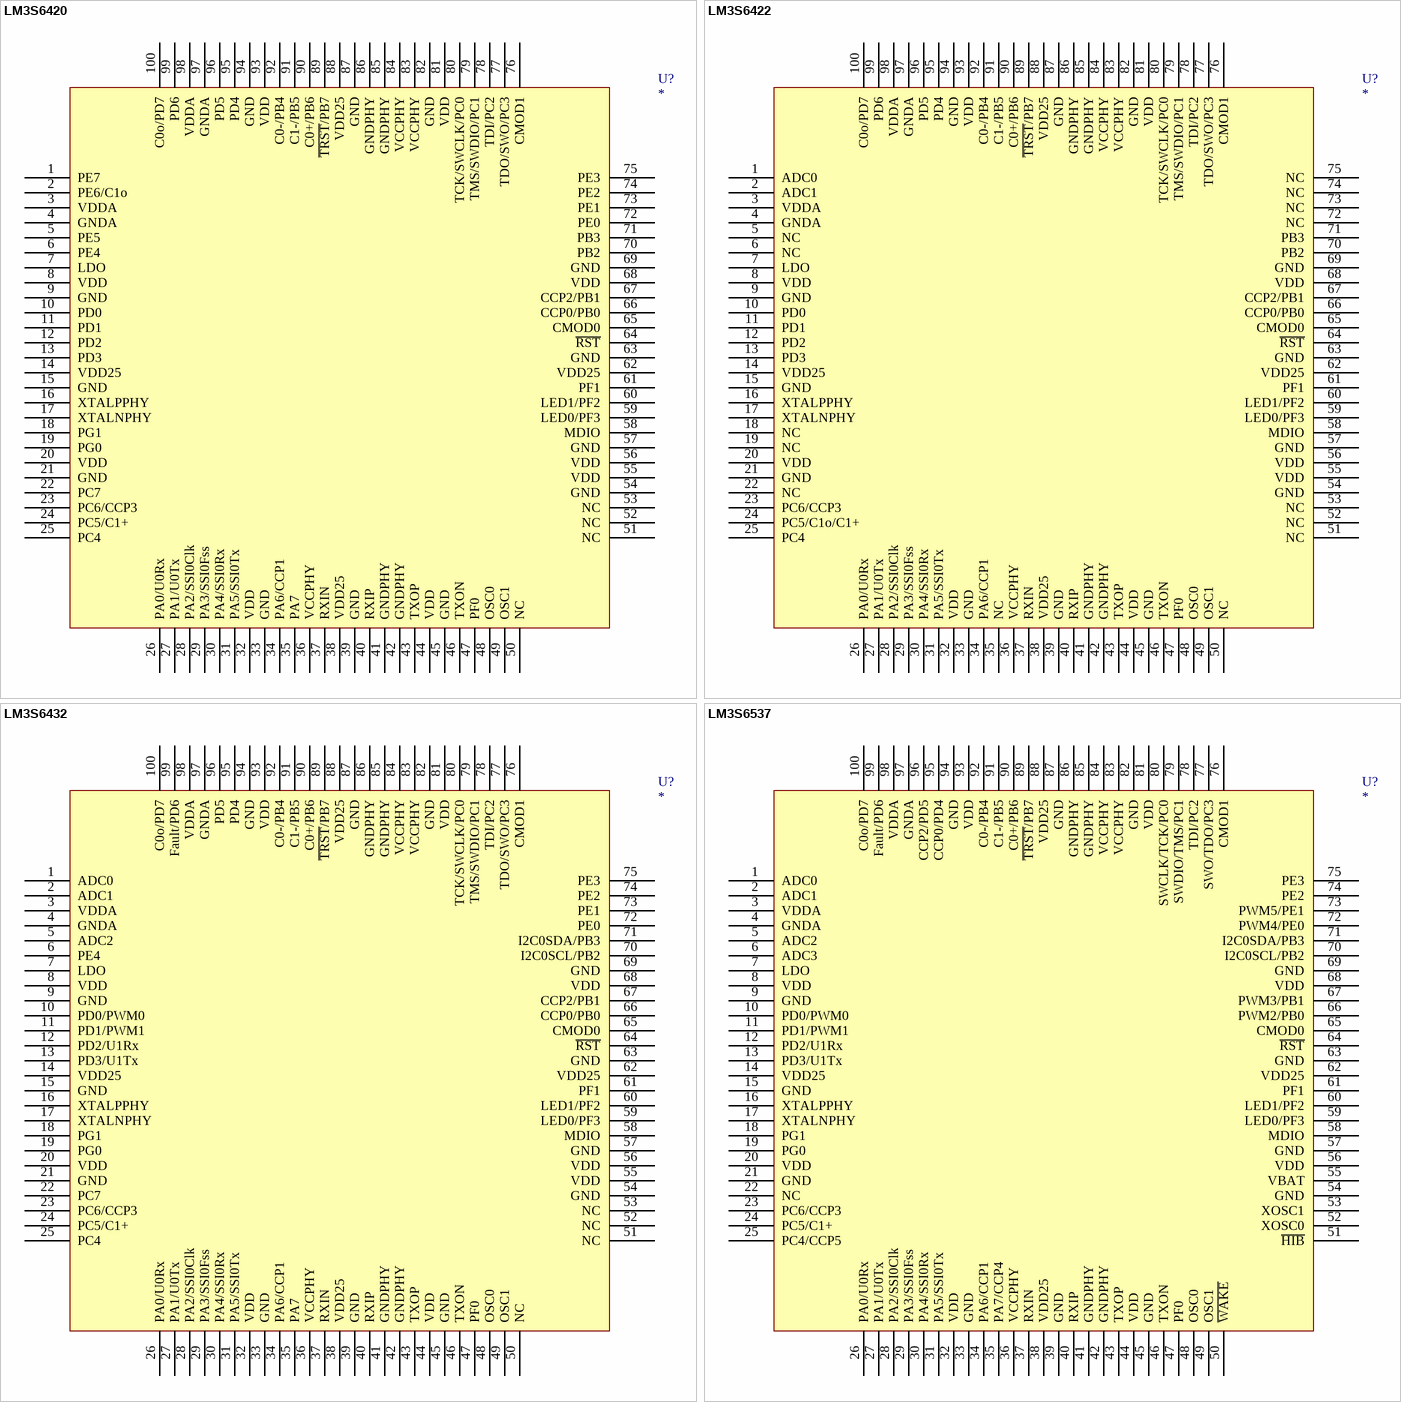
[diagram p33: symbols LM3S6420 to LM3S6537]

## LM3S6420
designator U?
footprint LQFP-100
pins: 1 PE7, 2 PE6/C1o, 3 VDDA, 4 GNDA, 5 PE5, 6 PE4, 7 LDO, 8 VDD, 9 GND, 10 PD0, 11 PD1, 12 PD2, 13 PD3, 14 VDD25, 15 GND, 16 XTALPPHY, 17 XTALNPHY, 18 PG1, 19 PG0, 20 VDD, 21 GND, 22 PC7, 23 PC6/CCP3, 24 PC5/C1+, 25 PC4, 26 PA0/U0Rx, 27 PA1/U0Tx, 28 PA2/SSI0Clk, 29 PA3/SSI0Fss, 30 PA4/SSI0Rx, 31 PA5/SSI0Tx, 32 VDD, 33 GND, 34 PA6/CCP1, 35 PA7, 36 VCCPHY, 37 RXIN, 38 VDD25, 39 GND, 40 RXIP, 41 GNDPHY, 42 GNDPHY, 43 TXOP, 44 VDD, 45 GND, 46 TXON, 47 PF0, 48 OSC0, 49 OSC1, 50 NC, 51 NC, 52 NC, 53 NC, 54 GND, 55 VDD, 56 VDD, 57 GND, 58 MDIO, 59 LED0/PF3, 60 LED1/PF2, 61 PF1, 62 VDD25, 63 GND, 64 ~{RST}, 65 CMOD0, 66 CCP0/PB0, 67 CCP2/PB1, 68 VDD, 69 GND, 70 PB2, 71 PB3, 72 PE0, 73 PE1, 74 PE2, 75 PE3, 76 CMOD1, 77 TDO/SWO/PC3, 78 TDI/PC2, 79 TMS/SWDIO/PC1, 80 TCK/SWCLK/PC0, 81 VDD, 82 GND, 83 VCCPHY, 84 VCCPHY, 85 GNDPHY, 86 GNDPHY, 87 GND, 88 VDD25, 89 ~{TRST}/PB7, 90 C0+/PB6, 91 C1-/PB5, 92 C0-/PB4, 93 VDD, 94 GND, 95 PD4, 96 PD5, 97 GNDA, 98 VDDA, 99 PD6, 100 C0o/PD7

## LM3S6422
designator U?
footprint LQFP-100
pins: 1 ADC0, 2 ADC1, 3 VDDA, 4 GNDA, 5 NC, 6 NC, 7 LDO, 8 VDD, 9 GND, 10 PD0, 11 PD1, 12 PD2, 13 PD3, 14 VDD25, 15 GND, 16 XTALPPHY, 17 XTALNPHY, 18 NC, 19 NC, 20 VDD, 21 GND, 22 NC, 23 PC6/CCP3, 24 PC5/C1o/C1+, 25 PC4, 26 PA0/U0Rx, 27 PA1/U0Tx, 28 PA2/SSI0Clk, 29 PA3/SSI0Fss, 30 PA4/SSI0Rx, 31 PA5/SSI0Tx, 32 VDD, 33 GND, 34 PA6/CCP1, 35 NC, 36 VCCPHY, 37 RXIN, 38 VDD25, 39 GND, 40 RXIP, 41 GNDPHY, 42 GNDPHY, 43 TXOP, 44 VDD, 45 GND, 46 TXON, 47 PF0, 48 OSC0, 49 OSC1, 50 NC, 51 NC, 52 NC, 53 NC, 54 GND, 55 VDD, 56 VDD, 57 GND, 58 MDIO, 59 LED0/PF3, 60 LED1/PF2, 61 PF1, 62 VDD25, 63 GND, 64 ~{RST}, 65 CMOD0, 66 CCP0/PB0, 67 CCP2/PB1, 68 VDD, 69 GND, 70 PB2, 71 PB3, 72 NC, 73 NC, 74 NC, 75 NC, 76 CMOD1, 77 TDO/SWO/PC3, 78 TDI/PC2, 79 TMS/SWDIO/PC1, 80 TCK/SWCLK/PC0, 81 VDD, 82 GND, 83 VCCPHY, 84 VCCPHY, 85 GNDPHY, 86 GNDPHY, 87 GND, 88 VDD25, 89 ~{TRST}/PB7, 90 C0+/PB6, 91 C1-/PB5, 92 C0-/PB4, 93 VDD, 94 GND, 95 PD4, 96 PD5, 97 GNDA, 98 VDDA, 99 PD6, 100 C0o/PD7

## LM3S6432
designator U?
footprint LQFP-100
pins: 1 ADC0, 2 ADC1, 3 VDDA, 4 GNDA, 5 ADC2, 6 PE4, 7 LDO, 8 VDD, 9 GND, 10 PD0/PWM0, 11 PD1/PWM1, 12 PD2/U1Rx, 13 PD3/U1Tx, 14 VDD25, 15 GND, 16 XTALPPHY, 17 XTALNPHY, 18 PG1, 19 PG0, 20 VDD, 21 GND, 22 PC7, 23 PC6/CCP3, 24 PC5/C1+, 25 PC4, 26 PA0/U0Rx, 27 PA1/U0Tx, 28 PA2/SSI0Clk, 29 PA3/SSI0Fss, 30 PA4/SSI0Rx, 31 PA5/SSI0Tx, 32 VDD, 33 GND, 34 PA6/CCP1, 35 PA7, 36 VCCPHY, 37 RXIN, 38 VDD25, 39 GND, 40 RXIP, 41 GNDPHY, 42 GNDPHY, 43 TXOP, 44 VDD, 45 GND, 46 TXON, 47 PF0, 48 OSC0, 49 OSC1, 50 NC, 51 NC, 52 NC, 53 NC, 54 GND, 55 VDD, 56 VDD, 57 GND, 58 MDIO, 59 LED0/PF3, 60 LED1/PF2, 61 PF1, 62 VDD25, 63 GND, 64 ~{RST}, 65 CMOD0, 66 CCP0/PB0, 67 CCP2/PB1, 68 VDD, 69 GND, 70 I2C0SCL/PB2, 71 I2C0SDA/PB3, 72 PE0, 73 PE1, 74 PE2, 75 PE3, 76 CMOD1, 77 TDO/SWO/PC3, 78 TDI/PC2, 79 TMS/SWDIO/PC1, 80 TCK/SWCLK/PC0, 81 VDD, 82 GND, 83 VCCPHY, 84 VCCPHY, 85 GNDPHY, 86 GNDPHY, 87 GND, 88 VDD25, 89 ~{TRST}/PB7, 90 C0+/PB6, 91 C1-/PB5, 92 C0-/PB4, 93 VDD, 94 GND, 95 PD4, 96 PD5, 97 GNDA, 98 VDDA, 99 Fault/PD6, 100 C0o/PD7

## LM3S6537
designator U?
footprint LQFP-100
pins: 1 ADC0, 2 ADC1, 3 VDDA, 4 GNDA, 5 ADC2, 6 ADC3, 7 LDO, 8 VDD, 9 GND, 10 PD0/PWM0, 11 PD1/PWM1, 12 PD2/U1Rx, 13 PD3/U1Tx, 14 VDD25, 15 GND, 16 XTALPPHY, 17 XTALNPHY, 18 PG1, 19 PG0, 20 VDD, 21 GND, 22 NC, 23 PC6/CCP3, 24 PC5/C1+, 25 PC4/CCP5, 26 PA0/U0Rx, 27 PA1/U0Tx, 28 PA2/SSI0Clk, 29 PA3/SSI0Fss, 30 PA4/SSI0Rx, 31 PA5/SSI0Tx, 32 VDD, 33 GND, 34 PA6/CCP1, 35 PA7/CCP4, 36 VCCPHY, 37 RXIN, 38 VDD25, 39 GND, 40 RXIP, 41 GNDPHY, 42 GNDPHY, 43 TXOP, 44 VDD, 45 GND, 46 TXON, 47 PF0, 48 OSC0, 49 OSC1, 50 ~{WAKE}, 51 ~{HIB}, 52 XOSC0, 53 XOSC1, 54 GND, 55 VBAT, 56 VDD, 57 GND, 58 MDIO, 59 LED0/PF3, 60 LED1/PF2, 61 PF1, 62 VDD25, 63 GND, 64 ~{RST}, 65 CMOD0, 66 PWM2/PB0, 67 PWM3/PB1, 68 VDD, 69 GND, 70 I2C0SCL/PB2, 71 I2C0SDA/PB3, 72 PWM4/PE0, 73 PWM5/PE1, 74 PE2, 75 PE3, 76 CMOD1, 77 SWO/TDO/PC3, 78 TDI/PC2, 79 SWDIO/TMS/PC1, 80 SWCLK/TCK/PC0, 81 VDD, 82 GND, 83 VCCPHY, 84 VCCPHY, 85 GNDPHY, 86 GNDPHY, 87 GND, 88 VDD25, 89 ~{TRST}/PB7, 90 C0+/PB6, 91 C1-/PB5, 92 C0-/PB4, 93 VDD, 94 GND, 95 CCP0/PD4, 96 CCP2/PD5, 97 GNDA, 98 VDDA, 99 Fault/PD6, 100 C0o/PD7

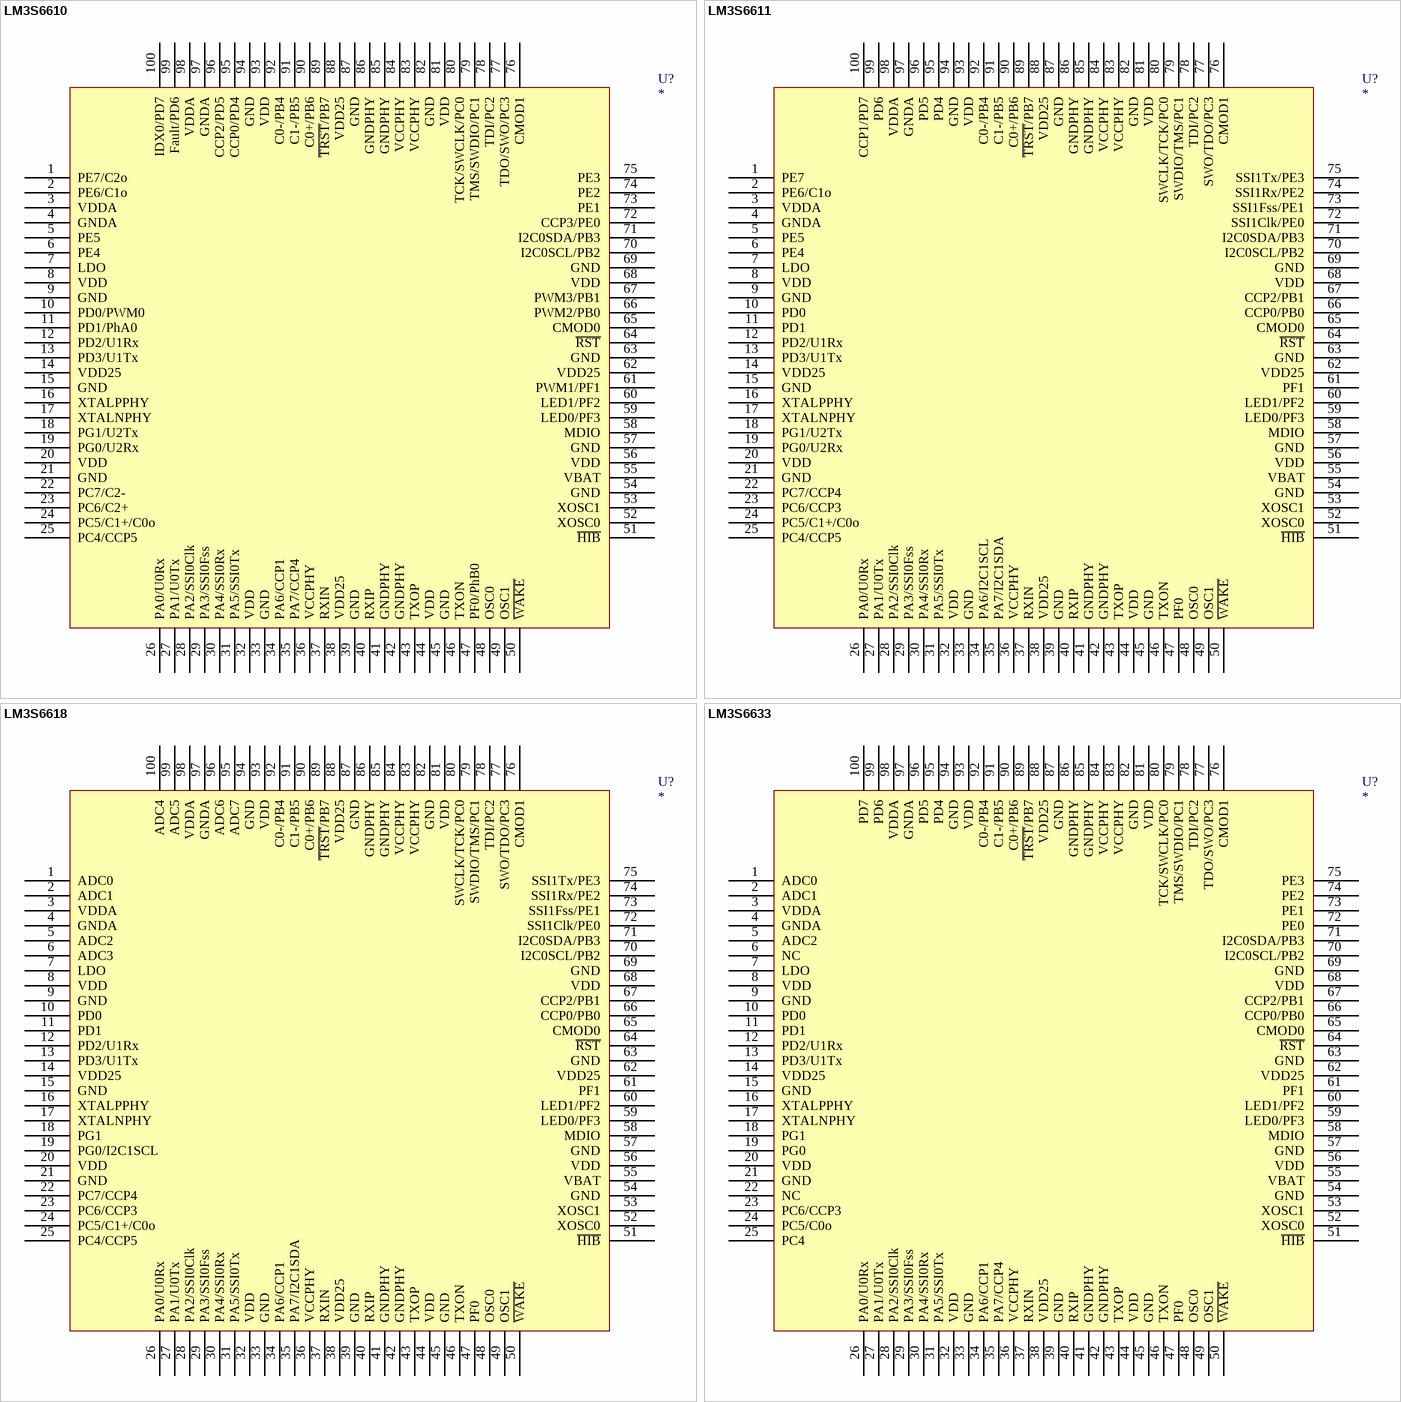
[diagram p34: symbols LM3S6610 to LM3S6633]

## LM3S6610
designator U?
footprint LQFP-100
pins: 1 PE7/C2o, 2 PE6/C1o, 3 VDDA, 4 GNDA, 5 PE5, 6 PE4, 7 LDO, 8 VDD, 9 GND, 10 PD0/PWM0, 11 PD1/PhA0, 12 PD2/U1Rx, 13 PD3/U1Tx, 14 VDD25, 15 GND, 16 XTALPPHY, 17 XTALNPHY, 18 PG1/U2Tx, 19 PG0/U2Rx, 20 VDD, 21 GND, 22 PC7/C2-, 23 PC6/C2+, 24 PC5/C1+/C0o, 25 PC4/CCP5, 26 PA0/U0Rx, 27 PA1/U0Tx, 28 PA2/SSI0Clk, 29 PA3/SSI0Fss, 30 PA4/SSI0Rx, 31 PA5/SSI0Tx, 32 VDD, 33 GND, 34 PA6/CCP1, 35 PA7/CCP4, 36 VCCPHY, 37 RXIN, 38 VDD25, 39 GND, 40 RXIP, 41 GNDPHY, 42 GNDPHY, 43 TXOP, 44 VDD, 45 GND, 46 TXON, 47 PF0/PhB0, 48 OSC0, 49 OSC1, 50 ~{WAKE}, 51 ~{HIB}, 52 XOSC0, 53 XOSC1, 54 GND, 55 VBAT, 56 VDD, 57 GND, 58 MDIO, 59 LED0/PF3, 60 LED1/PF2, 61 PWM1/PF1, 62 VDD25, 63 GND, 64 ~{RST}, 65 CMOD0, 66 PWM2/PB0, 67 PWM3/PB1, 68 VDD, 69 GND, 70 I2C0SCL/PB2, 71 I2C0SDA/PB3, 72 CCP3/PE0, 73 PE1, 74 PE2, 75 PE3, 76 CMOD1, 77 TDO/SWO/PC3, 78 TDI/PC2, 79 TMS/SWDIO/PC1, 80 TCK/SWCLK/PC0, 81 VDD, 82 GND, 83 VCCPHY, 84 VCCPHY, 85 GNDPHY, 86 GNDPHY, 87 GND, 88 VDD25, 89 ~{TRST}/PB7, 90 C0+/PB6, 91 C1-/PB5, 92 C0-/PB4, 93 VDD, 94 GND, 95 CCP0/PD4, 96 CCP2/PD5, 97 GNDA, 98 VDDA, 99 Fault/PD6, 100 IDX0/PD7

## LM3S6611
designator U?
footprint LQFP-100
pins: 1 PE7, 2 PE6/C1o, 3 VDDA, 4 GNDA, 5 PE5, 6 PE4, 7 LDO, 8 VDD, 9 GND, 10 PD0, 11 PD1, 12 PD2/U1Rx, 13 PD3/U1Tx, 14 VDD25, 15 GND, 16 XTALPPHY, 17 XTALNPHY, 18 PG1/U2Tx, 19 PG0/U2Rx, 20 VDD, 21 GND, 22 PC7/CCP4, 23 PC6/CCP3, 24 PC5/C1+/C0o, 25 PC4/CCP5, 26 PA0/U0Rx, 27 PA1/U0Tx, 28 PA2/SSI0Clk, 29 PA3/SSI0Fss, 30 PA4/SSI0Rx, 31 PA5/SSI0Tx, 32 VDD, 33 GND, 34 PA6/I2C1SCL, 35 PA7/I2C1SDA, 36 VCCPHY, 37 RXIN, 38 VDD25, 39 GND, 40 RXIP, 41 GNDPHY, 42 GNDPHY, 43 TXOP, 44 VDD, 45 GND, 46 TXON, 47 PF0, 48 OSC0, 49 OSC1, 50 ~{WAKE}, 51 ~{HIB}, 52 XOSC0, 53 XOSC1, 54 GND, 55 VBAT, 56 VDD, 57 GND, 58 MDIO, 59 LED0/PF3, 60 LED1/PF2, 61 PF1, 62 VDD25, 63 GND, 64 ~{RST}, 65 CMOD0, 66 CCP0/PB0, 67 CCP2/PB1, 68 VDD, 69 GND, 70 I2C0SCL/PB2, 71 I2C0SDA/PB3, 72 SSI1Clk/PE0, 73 SSI1Fss/PE1, 74 SSI1Rx/PE2, 75 SSI1Tx/PE3, 76 CMOD1, 77 SWO/TDO/PC3, 78 TDI/PC2, 79 SWDIO/TMS/PC1, 80 SWCLK/TCK/PC0, 81 VDD, 82 GND, 83 VCCPHY, 84 VCCPHY, 85 GNDPHY, 86 GNDPHY, 87 GND, 88 VDD25, 89 ~{TRST}/PB7, 90 C0+/PB6, 91 C1-/PB5, 92 C0-/PB4, 93 VDD, 94 GND, 95 PD4, 96 PD5, 97 GNDA, 98 VDDA, 99 PD6, 100 CCP1/PD7

## LM3S6618
designator U?
footprint LQFP-100
pins: 1 ADC0, 2 ADC1, 3 VDDA, 4 GNDA, 5 ADC2, 6 ADC3, 7 LDO, 8 VDD, 9 GND, 10 PD0, 11 PD1, 12 PD2/U1Rx, 13 PD3/U1Tx, 14 VDD25, 15 GND, 16 XTALPPHY, 17 XTALNPHY, 18 PG1, 19 PG0/I2C1SCL, 20 VDD, 21 GND, 22 PC7/CCP4, 23 PC6/CCP3, 24 PC5/C1+/C0o, 25 PC4/CCP5, 26 PA0/U0Rx, 27 PA1/U0Tx, 28 PA2/SSI0Clk, 29 PA3/SSI0Fss, 30 PA4/SSI0Rx, 31 PA5/SSI0Tx, 32 VDD, 33 GND, 34 PA6/CCP1, 35 PA7/I2C1SDA, 36 VCCPHY, 37 RXIN, 38 VDD25, 39 GND, 40 RXIP, 41 GNDPHY, 42 GNDPHY, 43 TXOP, 44 VDD, 45 GND, 46 TXON, 47 PF0, 48 OSC0, 49 OSC1, 50 ~{WAKE}, 51 ~{HIB}, 52 XOSC0, 53 XOSC1, 54 GND, 55 VBAT, 56 VDD, 57 GND, 58 MDIO, 59 LED0/PF3, 60 LED1/PF2, 61 PF1, 62 VDD25, 63 GND, 64 ~{RST}, 65 CMOD0, 66 CCP0/PB0, 67 CCP2/PB1, 68 VDD, 69 GND, 70 I2C0SCL/PB2, 71 I2C0SDA/PB3, 72 SSI1Clk/PE0, 73 SSI1Fss/PE1, 74 SSI1Rx/PE2, 75 SSI1Tx/PE3, 76 CMOD1, 77 SWO/TDO/PC3, 78 TDI/PC2, 79 SWDIO/TMS/PC1, 80 SWCLK/TCK/PC0, 81 VDD, 82 GND, 83 VCCPHY, 84 VCCPHY, 85 GNDPHY, 86 GNDPHY, 87 GND, 88 VDD25, 89 ~{TRST}/PB7, 90 C0+/PB6, 91 C1-/PB5, 92 C0-/PB4, 93 VDD, 94 GND, 95 ADC7, 96 ADC6, 97 GNDA, 98 VDDA, 99 ADC5, 100 ADC4

## LM3S6633
designator U?
footprint LQFP-100
pins: 1 ADC0, 2 ADC1, 3 VDDA, 4 GNDA, 5 ADC2, 6 NC, 7 LDO, 8 VDD, 9 GND, 10 PD0, 11 PD1, 12 PD2/U1Rx, 13 PD3/U1Tx, 14 VDD25, 15 GND, 16 XTALPPHY, 17 XTALNPHY, 18 PG1, 19 PG0, 20 VDD, 21 GND, 22 NC, 23 PC6/CCP3, 24 PC5/C0o, 25 PC4, 26 PA0/U0Rx, 27 PA1/U0Tx, 28 PA2/SSI0Clk, 29 PA3/SSI0Fss, 30 PA4/SSI0Rx, 31 PA5/SSI0Tx, 32 VDD, 33 GND, 34 PA6/CCP1, 35 PA7/CCP4, 36 VCCPHY, 37 RXIN, 38 VDD25, 39 GND, 40 RXIP, 41 GNDPHY, 42 GNDPHY, 43 TXOP, 44 VDD, 45 GND, 46 TXON, 47 PF0, 48 OSC0, 49 OSC1, 50 ~{WAKE}, 51 ~{HIB}, 52 XOSC0, 53 XOSC1, 54 GND, 55 VBAT, 56 VDD, 57 GND, 58 MDIO, 59 LED0/PF3, 60 LED1/PF2, 61 PF1, 62 VDD25, 63 GND, 64 ~{RST}, 65 CMOD0, 66 CCP0/PB0, 67 CCP2/PB1, 68 VDD, 69 GND, 70 I2C0SCL/PB2, 71 I2C0SDA/PB3, 72 PE0, 73 PE1, 74 PE2, 75 PE3, 76 CMOD1, 77 TDO/SWO/PC3, 78 TDI/PC2, 79 TMS/SWDIO/PC1, 80 TCK/SWCLK/PC0, 81 VDD, 82 GND, 83 VCCPHY, 84 VCCPHY, 85 GNDPHY, 86 GNDPHY, 87 GND, 88 VDD25, 89 ~{TRST}/PB7, 90 C0+/PB6, 91 C1-/PB5, 92 C0-/PB4, 93 VDD, 94 GND, 95 PD4, 96 PD5, 97 GNDA, 98 VDDA, 99 PD6, 100 PD7

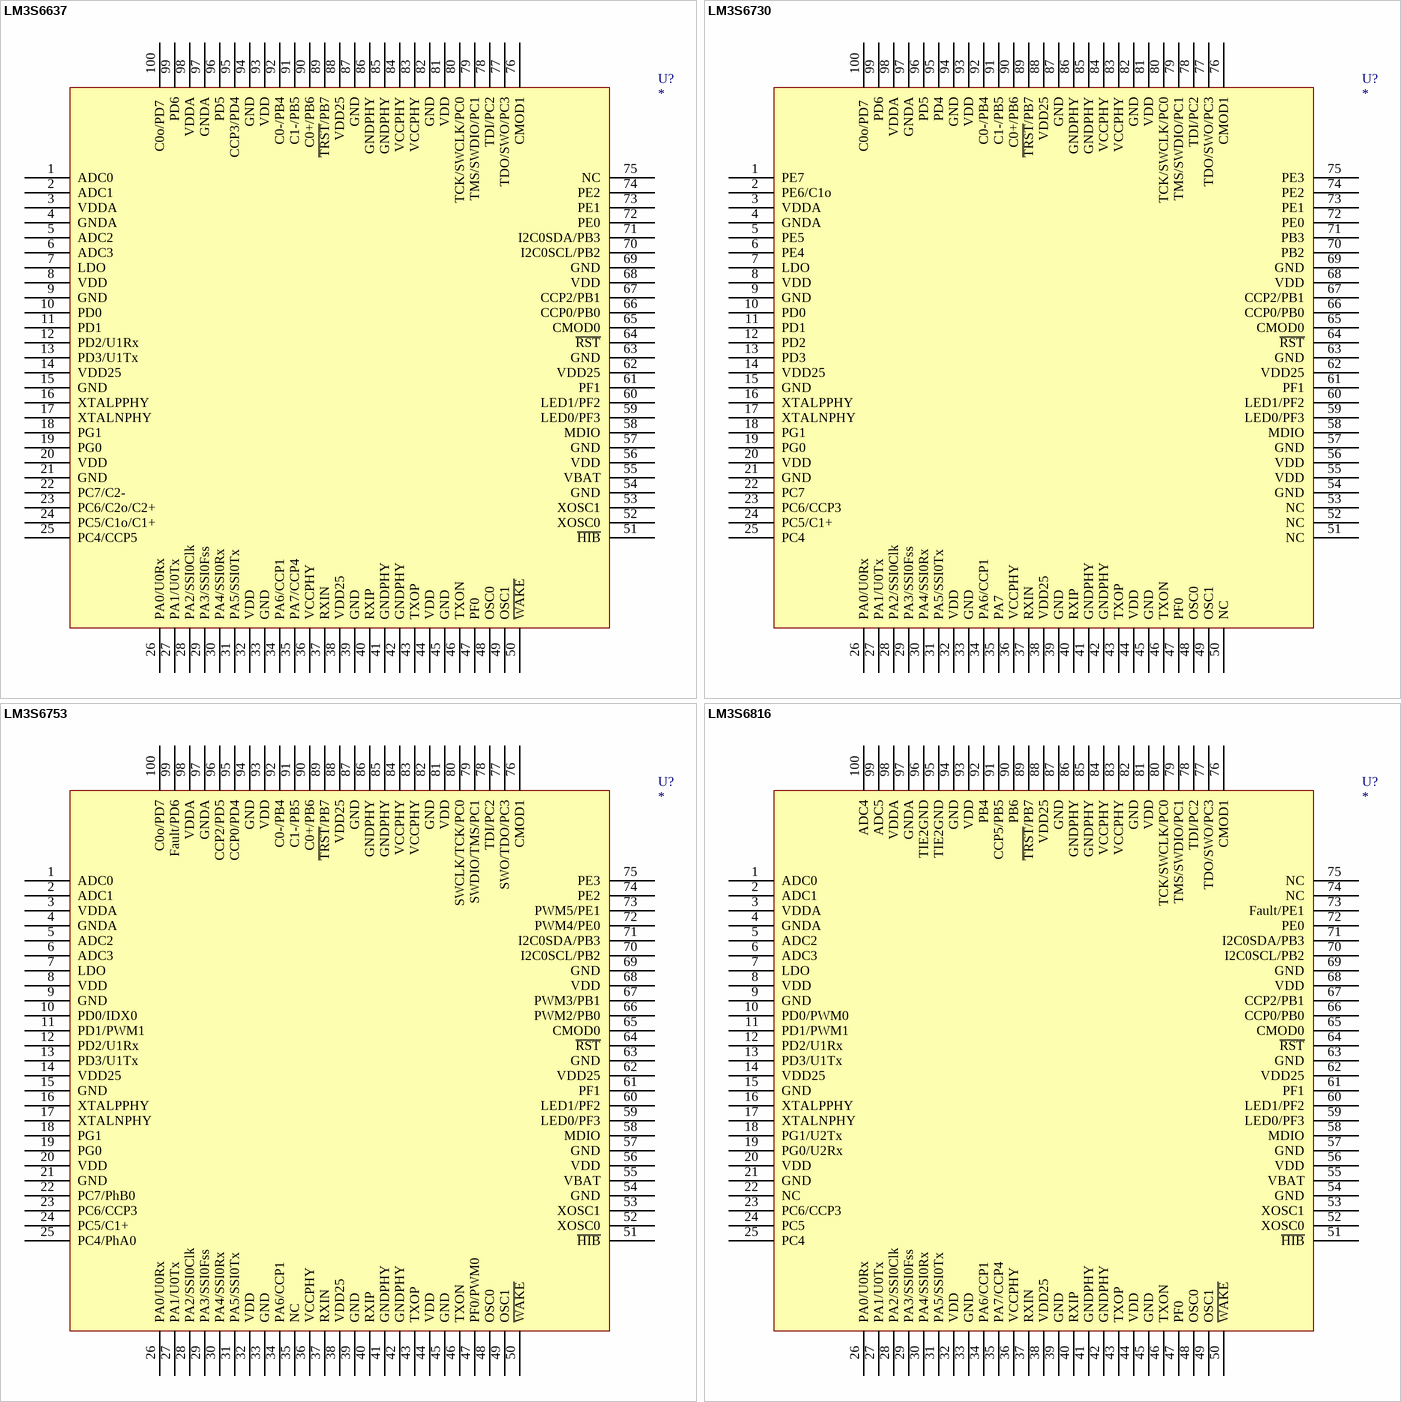
[diagram p35: symbols LM3S6637 to LM3S6816]

## LM3S6637
designator U?
footprint LQFP-100
pins: 1 ADC0, 2 ADC1, 3 VDDA, 4 GNDA, 5 ADC2, 6 ADC3, 7 LDO, 8 VDD, 9 GND, 10 PD0, 11 PD1, 12 PD2/U1Rx, 13 PD3/U1Tx, 14 VDD25, 15 GND, 16 XTALPPHY, 17 XTALNPHY, 18 PG1, 19 PG0, 20 VDD, 21 GND, 22 PC7/C2-, 23 PC6/C2o/C2+, 24 PC5/C1o/C1+, 25 PC4/CCP5, 26 PA0/U0Rx, 27 PA1/U0Tx, 28 PA2/SSI0Clk, 29 PA3/SSI0Fss, 30 PA4/SSI0Rx, 31 PA5/SSI0Tx, 32 VDD, 33 GND, 34 PA6/CCP1, 35 PA7/CCP4, 36 VCCPHY, 37 RXIN, 38 VDD25, 39 GND, 40 RXIP, 41 GNDPHY, 42 GNDPHY, 43 TXOP, 44 VDD, 45 GND, 46 TXON, 47 PF0, 48 OSC0, 49 OSC1, 50 ~{WAKE}, 51 ~{HIB}, 52 XOSC0, 53 XOSC1, 54 GND, 55 VBAT, 56 VDD, 57 GND, 58 MDIO, 59 LED0/PF3, 60 LED1/PF2, 61 PF1, 62 VDD25, 63 GND, 64 ~{RST}, 65 CMOD0, 66 CCP0/PB0, 67 CCP2/PB1, 68 VDD, 69 GND, 70 I2C0SCL/PB2, 71 I2C0SDA/PB3, 72 PE0, 73 PE1, 74 PE2, 75 NC, 76 CMOD1, 77 TDO/SWO/PC3, 78 TDI/PC2, 79 TMS/SWDIO/PC1, 80 TCK/SWCLK/PC0, 81 VDD, 82 GND, 83 VCCPHY, 84 VCCPHY, 85 GNDPHY, 86 GNDPHY, 87 GND, 88 VDD25, 89 ~{TRST}/PB7, 90 C0+/PB6, 91 C1-/PB5, 92 C0-/PB4, 93 VDD, 94 GND, 95 CCP3/PD4, 96 PD5, 97 GNDA, 98 VDDA, 99 PD6, 100 C0o/PD7 

## LM3S6730
designator U?
footprint LQFP-100
pins: 1 PE7, 2 PE6/C1o, 3 VDDA, 4 GNDA, 5 PE5, 6 PE4, 7 LDO, 8 VDD, 9 GND, 10 PD0, 11 PD1, 12 PD2, 13 PD3, 14 VDD25, 15 GND, 16 XTALPPHY, 17 XTALNPHY, 18 PG1, 19 PG0, 20 VDD, 21 GND, 22 PC7, 23 PC6/CCP3, 24 PC5/C1+, 25 PC4, 26 PA0/U0Rx, 27 PA1/U0Tx, 28 PA2/SSI0Clk, 29 PA3/SSI0Fss, 30 PA4/SSI0Rx, 31 PA5/SSI0Tx, 32 VDD, 33 GND, 34 PA6/CCP1, 35 PA7, 36 VCCPHY, 37 RXIN, 38 VDD25, 39 GND, 40 RXIP, 41 GNDPHY, 42 GNDPHY, 43 TXOP, 44 VDD, 45 GND, 46 TXON, 47 PF0, 48 OSC0, 49 OSC1, 50 NC, 51 NC, 52 NC, 53 NC, 54 GND, 55 VDD, 56 VDD, 57 GND, 58 MDIO, 59 LED0/PF3, 60 LED1/PF2, 61 PF1, 62 VDD25, 63 GND, 64 ~{RST}, 65 CMOD0, 66 CCP0/PB0, 67 CCP2/PB1, 68 VDD, 69 GND, 70 PB2, 71 PB3, 72 PE0, 73 PE1, 74 PE2, 75 PE3, 76 CMOD1, 77 TDO/SWO/PC3, 78 TDI/PC2, 79 TMS/SWDIO/PC1, 80 TCK/SWCLK/PC0, 81 VDD, 82 GND, 83 VCCPHY, 84 VCCPHY, 85 GNDPHY, 86 GNDPHY, 87 GND, 88 VDD25, 89 ~{TRST}/PB7, 90 C0+/PB6, 91 C1-/PB5, 92 C0-/PB4, 93 VDD, 94 GND, 95 PD4, 96 PD5, 97 GNDA, 98 VDDA, 99 PD6, 100 C0o/PD7 